# Altium integrated library Xilinx XC4000XL.IntLib: 450 symbols (part 2 of 58)
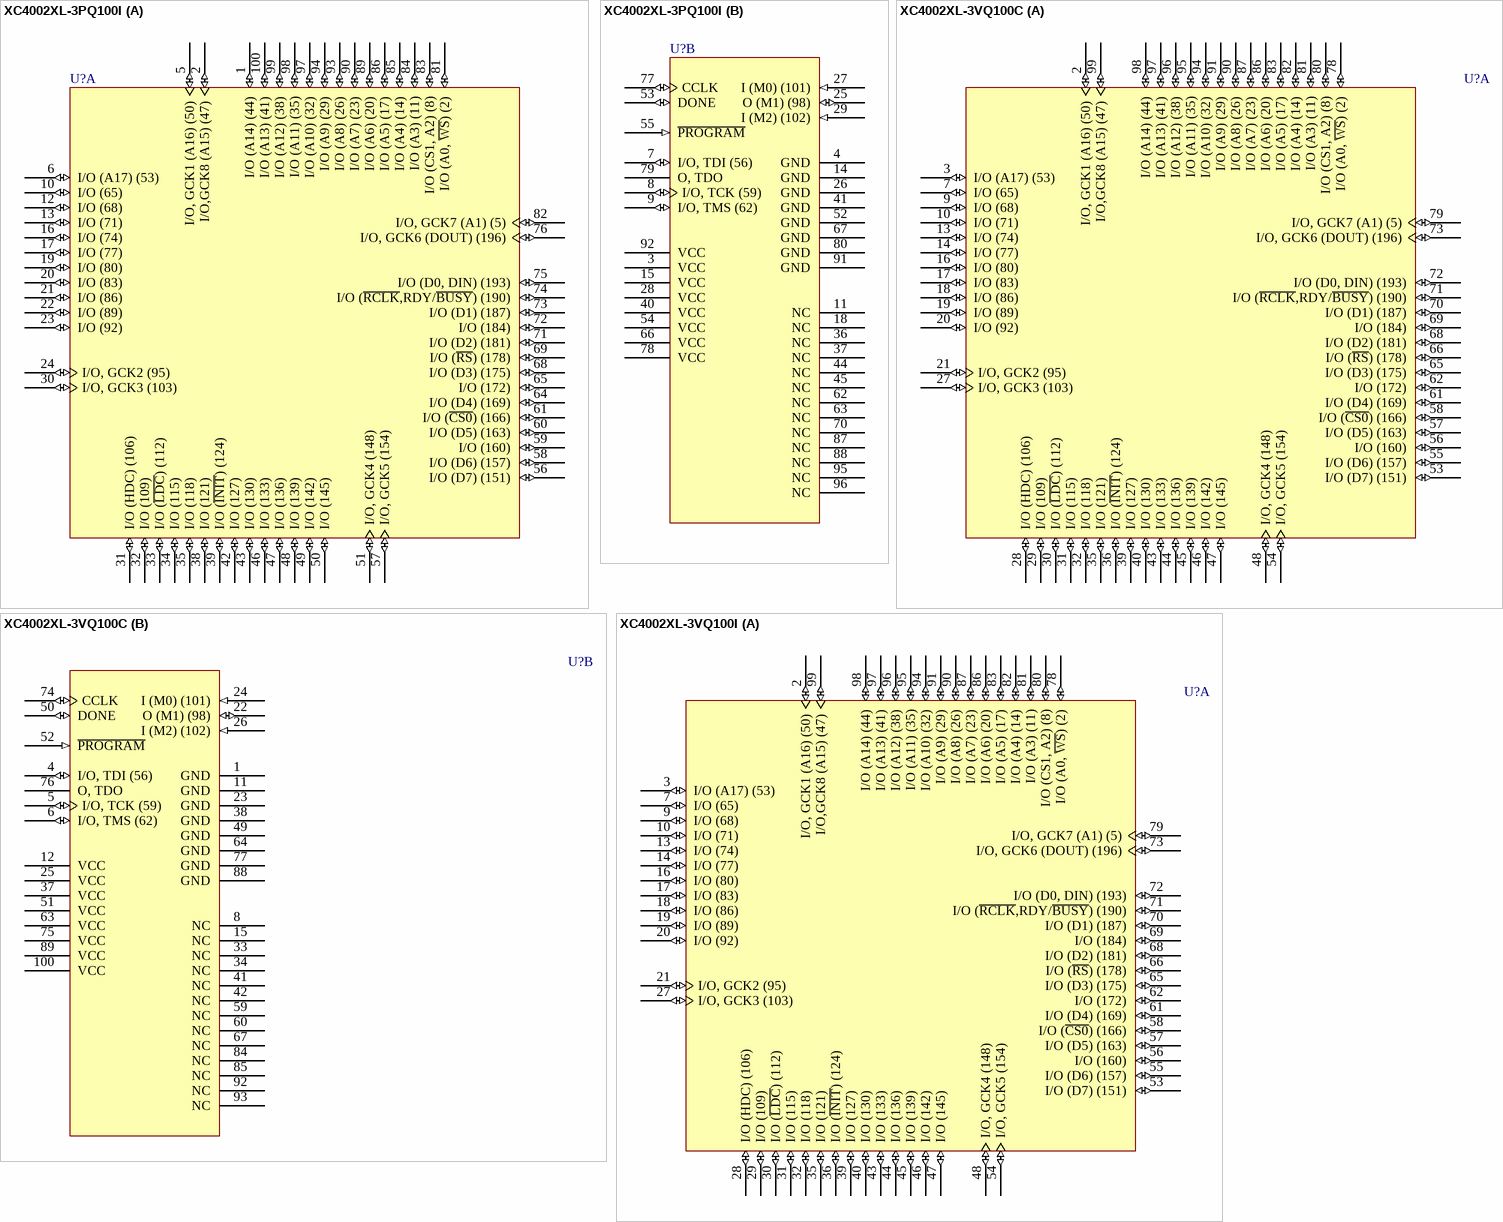
[diagram p400: symbols XC4002XL-3PQ100I to XC4002XL-3VQ100I]

## XC4002XL-3PQ100I
designator U?
XC4000XL FPGA, 64 I/Os, 100-Pin PQFP, Speed Grade 3, Industrial Grade; Published: 28-Feb-2003; LatestRevisionDate: 13-Apr-2006; LatestRevisionNote: IPC-7351 Footprint Added.; DatasheetVersion: ver1.6, May-1999; PackageVersion: ver1.2, Oct-2002; PackageReference: PQ100; Publisher: Altium Limited; PackageDescription: 100-Pin Plastic Quad Flat Pack (PQ100); Code_IPC: QFP65P1720X2320-100; ComponentLink1Description: XC4000XL Datasheet; ComponentLink1URL: http://www.xilinx.com/support/documentation/data_sheets/4000.pdf; ComponentLink2Description: Discontinuation Notice; ComponentLink2URL: http://www.xilinx.com/support/documentation/customer_notices/pdn00001.pdf; ComponentLink3Description: PQ100 Package Drawing; ComponentLink3URL: http://www.xilinx.com/support/documentation/package_specs/pq100.pdf; ComponentLink4Description: XC4000 Documents; ComponentLink4URL: http://www.xilinx.com/support/documentation/xc4000.htm; ComponentLink5Description: Xilinx.com Home; ComponentLink5URL: http://www.xilinx.com
footprint PQ100_N (QFP, 100-Leads, Body 20x14mm, Pitch 0.65mm, IPC Medium Density)
footprint PQ100_L (QFP, 100-Leads, Body 20x14mm, Pitch 0.65mm, IPC High Density)
footprint PQ100_M (QFP, 100-Leads, Body 20x14mm, Pitch 0.65mm, IPC Low Density)
part A pins: 1 I/O (A14) (44) (io), 2 I/O,GCK8 (A15) (47) (io), 5 I/O, GCK1 (A16) (50) (io), 6 I/O (A17) (53) (io), 10 I/O (65) (io), 12 I/O (68) (io), 13 I/O (71) (io), 16 I/O (74) (io), 17 I/O (77) (io), 19 I/O (80) (io), 20 I/O (83) (io), 21 I/O (86) (io), 22 I/O (89) (io), 23 I/O (92) (io), 24 I/O, GCK2 (95) (io), 30 I/O, GCK3 (103) (io), 31 I/O (HDC) (106) (io), 32 I/O (109) (io), 33 I/O (~{LDC}) (112) (io), 34 I/O (115) (io), 35 I/O (118) (io), 38 I/O (121) (io), 39 I/O (~{INIT}) (124) (io), 42 I/O (127) (io), 43 I/O (130) (io), 46 I/O (133) (io), 47 I/O (136) (io), 48 I/O (139) (io), 49 I/O (142) (io), 50 I/O (145) (io), 51 I/O, GCK4 (148) (io), 56 I/O (D7) (151) (io), 57 I/O, GCK5 (154) (io), 58 I/O (D6) (157) (io), 59 I/O (160) (io), 60 I/O (D5) (163) (io), 61 I/O (~{CS0}) (166) (io), 64 I/O (D4) (169) (io), 65 I/O (172) (io), 68 I/O (D3) (175) (io), 69 I/O (~{RS}) (178) (io), 71 I/O (D2) (181) (io), 72 I/O (184) (io), 73 I/O (D1) (187) (io), 74 I/O (~{RCLK},RDY/~{BUSY}) (190) (io), 75 I/O (D0, DIN) (193) (io), 76 I/O, GCK6 (DOUT) (196) (io), 81 I/O (A0, ~{WS}) (2) (io), 82 I/O, GCK7 (A1) (5) (io), 83 I/O (CS1, A2) (8) (io), 84 I/O (A3) (11) (io), 85 I/O (A4) (14) (io), 86 I/O (A5) (17) (io), 89 I/O (A6) (20) (io), 90 I/O (A7) (23) (io), 93 I/O (A8) (26) (io), 94 I/O (A9) (29) (io), 97 I/O (A10) (32) (io), 98 I/O (A11) (35) (io), 99 I/O (A12) (38) (io), 100 I/O (A13) (41) (io)
part B pins: 3 VCC (power), 4 GND (power), 7 I/O, TDI (56) (io), 8 I/O, TCK (59) (io), 9 I/O, TMS (62) (io), 11 NC, 14 GND (power), 15 VCC (power), 18 NC, 25 O (M1) (98) (io), 26 GND (power), 27 I (M0) (101) (in), 28 VCC (power), 29 I (M2) (102) (in), 36 NC, 37 NC, 40 VCC (power), 41 GND (power), 44 NC, 45 NC, 52 GND (power), 53 DONE (io), 54 VCC (power), 55 ~{PROGRAM} (in), 62 NC, 63 NC, 66 VCC (power), 67 GND (power), 70 NC, 77 CCLK (io), 78 VCC (power), 79 O, TDO (hiz), 80 GND (power), 87 NC, 88 NC, 91 GND (power), 92 VCC (power), 95 NC, 96 NC

## XC4002XL-3VQ100C
designator U?
XC4000XL FPGA, 64 I/Os, 100-Pin VQFP, Speed Grade 3, Commercial Grade; Published: 28-Feb-2003; LatestRevisionDate: 13-Apr-2006; LatestRevisionNote: IPC-7351 Footprint Added.; DatasheetVersion: ver1.6, May-1999; PackageVersion: ver1.2.1, Feb-2007; PackageReference: VQ100; Publisher: Altium Limited; PackageDescription: 100-Pin Very Thin Quad Flat Pack (VQ100); Code_JEDEC: MS-026-AED; ComponentLink1Description: XC4000XL Datasheet; ComponentLink1URL: http://www.xilinx.com/support/documentation/data_sheets/4000.pdf; ComponentLink2Description: Discontinuation Notice; ComponentLink2URL: http://www.xilinx.com/support/documentation/customer_notices/pdn00001.pdf; ComponentLink3Description: VQ100 Package Drawing; ComponentLink3URL: http://www.xilinx.com/support/documentation/package_specs/vq100.pdf; ComponentLink4Description: XC4000 Documents; ComponentLink4URL: http://www.xilinx.com/support/documentation/xc4000.htm; ComponentLink5Description: Xilinx.com Home; ComponentLink5URL: http://www.xilinx.com
footprint VQ100_N (Thin QFP, 100-Leads, Body 14x14mm, Pitch 0.5mm, IPC Medium Density)
footprint VQ100_L (Thin QFP, 100-Leads, Body 14x14mm, Pitch 0.5mm, IPC High Density)
footprint VQ100_M (Thin QFP, 100-Leads, Body 14x14mm, Pitch 0.5mm, IPC Low Density)
part A pins: 2 I/O, GCK1 (A16) (50) (io), 3 I/O (A17) (53) (io), 7 I/O (65) (io), 9 I/O (68) (io), 10 I/O (71) (io), 13 I/O (74) (io), 14 I/O (77) (io), 16 I/O (80) (io), 17 I/O (83) (io), 18 I/O (86) (io), 19 I/O (89) (io), 20 I/O (92) (io), 21 I/O, GCK2 (95) (io), 27 I/O, GCK3 (103) (io), 28 I/O (HDC) (106) (io), 29 I/O (109) (io), 30 I/O (~{LDC}) (112) (io), 31 I/O (115) (io), 32 I/O (118) (io), 35 I/O (121) (io), 36 I/O (~{INIT}) (124) (io), 39 I/O (127) (io), 40 I/O (130) (io), 43 I/O (133) (io), 44 I/O (136) (io), 45 I/O (139) (io), 46 I/O (142) (io), 47 I/O (145) (io), 48 I/O, GCK4 (148) (io), 53 I/O (D7) (151) (io), 54 I/O, GCK5 (154) (io), 55 I/O (D6) (157) (io), 56 I/O (160) (io), 57 I/O (D5) (163) (io), 58 I/O (~{CS0}) (166) (io), 61 I/O (D4) (169) (io), 62 I/O (172) (io), 65 I/O (D3) (175) (io), 66 I/O (~{RS}) (178) (io), 68 I/O (D2) (181) (io), 69 I/O (184) (io), 70 I/O (D1) (187) (io), 71 I/O (~{RCLK},RDY/~{BUSY}) (190) (io), 72 I/O (D0, DIN) (193) (io), 73 I/O, GCK6 (DOUT) (196) (io), 78 I/O (A0, ~{WS}) (2) (io), 79 I/O, GCK7 (A1) (5) (io), 80 I/O (CS1, A2) (8) (io), 81 I/O (A3) (11) (io), 82 I/O (A4) (14) (io), 83 I/O (A5) (17) (io), 86 I/O (A6) (20) (io), 87 I/O (A7) (23) (io), 90 I/O (A8) (26) (io), 91 I/O (A9) (29) (io), 94 I/O (A10) (32) (io), 95 I/O (A11) (35) (io), 96 I/O (A12) (38) (io), 97 I/O (A13) (41) (io), 98 I/O (A14) (44) (io), 99 I/O,GCK8 (A15) (47) (io)
part B pins: 1 GND (power), 4 I/O, TDI (56) (io), 5 I/O, TCK (59) (io), 6 I/O, TMS (62) (io), 8 NC, 11 GND (power), 12 VCC (power), 15 NC, 22 O (M1) (98) (io), 23 GND (power), 24 I (M0) (101) (in), 25 VCC (power), 26 I (M2) (102) (in), 33 NC, 34 NC, 37 VCC (power), 38 GND (power), 41 NC, 42 NC, 49 GND (power), 50 DONE (io), 51 VCC (power), 52 ~{PROGRAM} (in), 59 NC, 60 NC, 63 VCC (power), 64 GND (power), 67 NC, 74 CCLK (io), 75 VCC (power), 76 O, TDO (hiz), 77 GND (power), 84 NC, 85 NC, 88 GND (power), 89 VCC (power), 92 NC, 93 NC, 100 VCC (power)

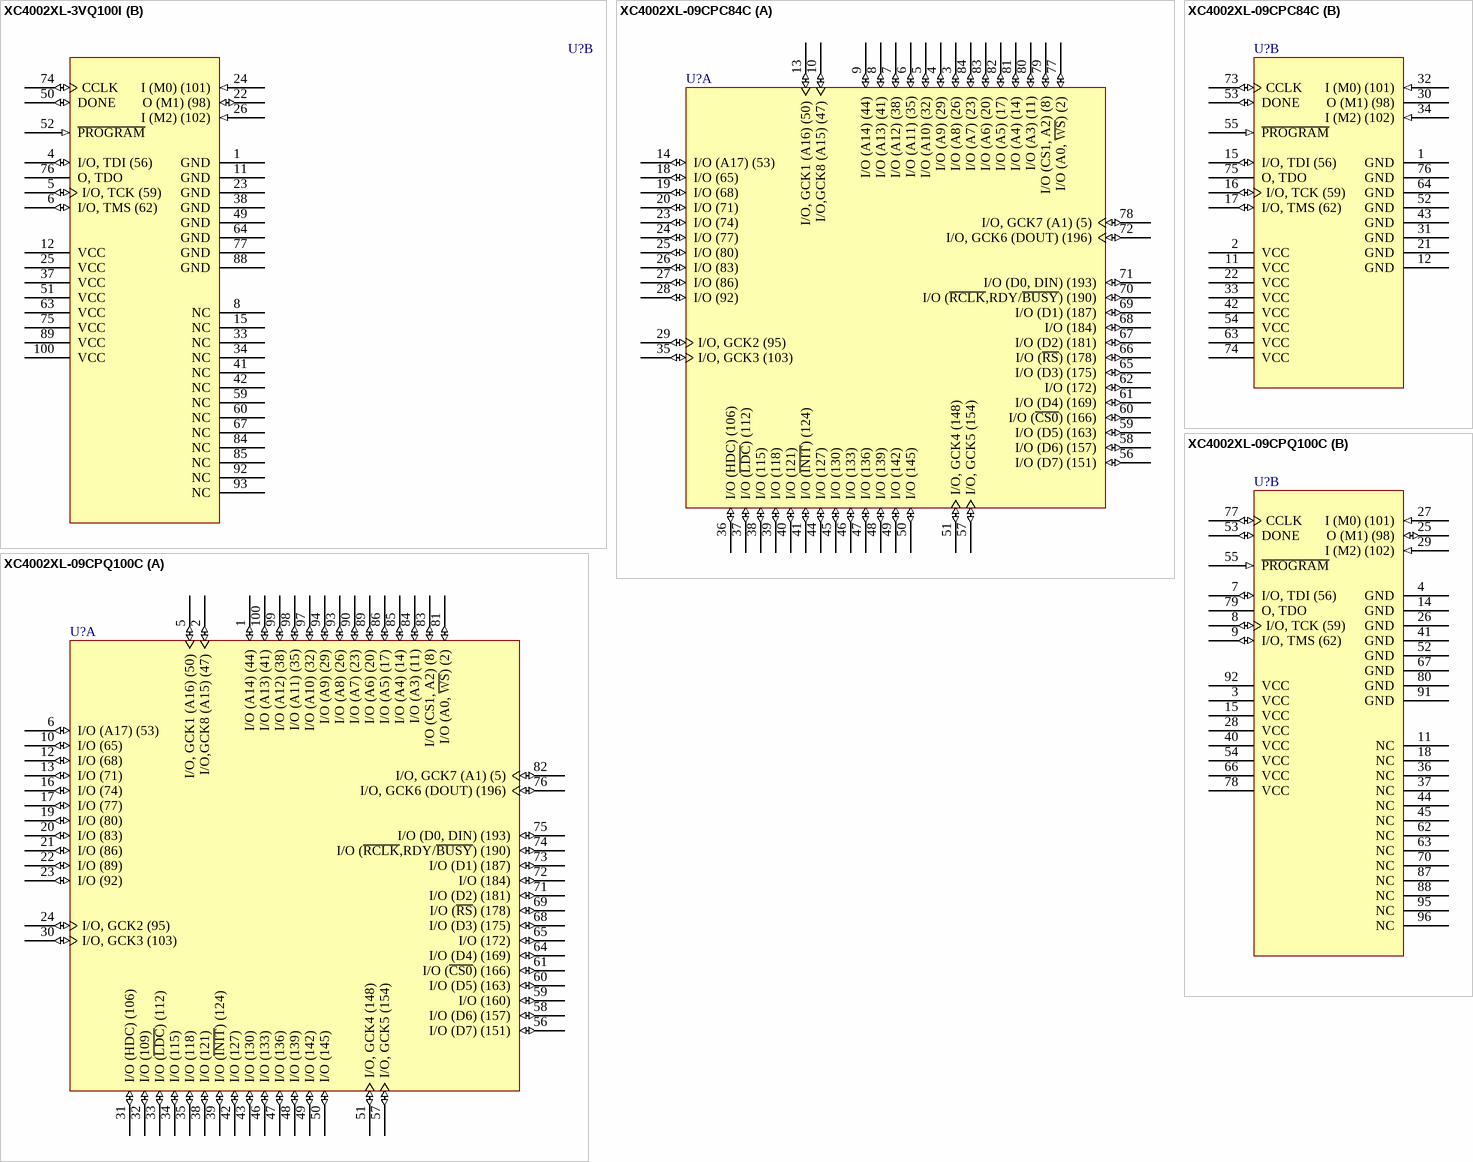
[diagram p6: symbols XC4002XL-3VQ100I to XC4002XL-09CPQ100C]

## XC4002XL-3VQ100I
designator U?
XC4000XL FPGA, 64 I/Os, 100-Pin VQFP, Speed Grade 3, Industrial Grade; Published: 28-Feb-2003; LatestRevisionDate: 13-Apr-2006; LatestRevisionNote: IPC-7351 Footprint Added.; DatasheetVersion: ver1.6, May-1999; PackageVersion: ver1.2.1, Feb-2007; PackageReference: VQ100; Publisher: Altium Limited; PackageDescription: 100-Pin Very Thin Quad Flat Pack (VQ100); Code_JEDEC: MS-026-AED; ComponentLink1Description: XC4000XL Datasheet; ComponentLink1URL: http://www.xilinx.com/support/documentation/data_sheets/4000.pdf; ComponentLink2Description: Discontinuation Notice; ComponentLink2URL: http://www.xilinx.com/support/documentation/customer_notices/pdn00001.pdf; ComponentLink3Description: VQ100 Package Drawing; ComponentLink3URL: http://www.xilinx.com/support/documentation/package_specs/vq100.pdf; ComponentLink4Description: XC4000 Documents; ComponentLink4URL: http://www.xilinx.com/support/documentation/xc4000.htm; ComponentLink5Description: Xilinx.com Home; ComponentLink5URL: http://www.xilinx.com
footprint VQ100_N (Thin QFP, 100-Leads, Body 14x14mm, Pitch 0.5mm, IPC Medium Density)
footprint VQ100_L (Thin QFP, 100-Leads, Body 14x14mm, Pitch 0.5mm, IPC High Density)
footprint VQ100_M (Thin QFP, 100-Leads, Body 14x14mm, Pitch 0.5mm, IPC Low Density)
part A pins: 2 I/O, GCK1 (A16) (50) (io), 3 I/O (A17) (53) (io), 7 I/O (65) (io), 9 I/O (68) (io), 10 I/O (71) (io), 13 I/O (74) (io), 14 I/O (77) (io), 16 I/O (80) (io), 17 I/O (83) (io), 18 I/O (86) (io), 19 I/O (89) (io), 20 I/O (92) (io), 21 I/O, GCK2 (95) (io), 27 I/O, GCK3 (103) (io), 28 I/O (HDC) (106) (io), 29 I/O (109) (io), 30 I/O (~{LDC}) (112) (io), 31 I/O (115) (io), 32 I/O (118) (io), 35 I/O (121) (io), 36 I/O (~{INIT}) (124) (io), 39 I/O (127) (io), 40 I/O (130) (io), 43 I/O (133) (io), 44 I/O (136) (io), 45 I/O (139) (io), 46 I/O (142) (io), 47 I/O (145) (io), 48 I/O, GCK4 (148) (io), 53 I/O (D7) (151) (io), 54 I/O, GCK5 (154) (io), 55 I/O (D6) (157) (io), 56 I/O (160) (io), 57 I/O (D5) (163) (io), 58 I/O (~{CS0}) (166) (io), 61 I/O (D4) (169) (io), 62 I/O (172) (io), 65 I/O (D3) (175) (io), 66 I/O (~{RS}) (178) (io), 68 I/O (D2) (181) (io), 69 I/O (184) (io), 70 I/O (D1) (187) (io), 71 I/O (~{RCLK},RDY/~{BUSY}) (190) (io), 72 I/O (D0, DIN) (193) (io), 73 I/O, GCK6 (DOUT) (196) (io), 78 I/O (A0, ~{WS}) (2) (io), 79 I/O, GCK7 (A1) (5) (io), 80 I/O (CS1, A2) (8) (io), 81 I/O (A3) (11) (io), 82 I/O (A4) (14) (io), 83 I/O (A5) (17) (io), 86 I/O (A6) (20) (io), 87 I/O (A7) (23) (io), 90 I/O (A8) (26) (io), 91 I/O (A9) (29) (io), 94 I/O (A10) (32) (io), 95 I/O (A11) (35) (io), 96 I/O (A12) (38) (io), 97 I/O (A13) (41) (io), 98 I/O (A14) (44) (io), 99 I/O,GCK8 (A15) (47) (io)
part B pins: 1 GND (power), 4 I/O, TDI (56) (io), 5 I/O, TCK (59) (io), 6 I/O, TMS (62) (io), 8 NC, 11 GND (power), 12 VCC (power), 15 NC, 22 O (M1) (98) (io), 23 GND (power), 24 I (M0) (101) (in), 25 VCC (power), 26 I (M2) (102) (in), 33 NC, 34 NC, 37 VCC (power), 38 GND (power), 41 NC, 42 NC, 49 GND (power), 50 DONE (io), 51 VCC (power), 52 ~{PROGRAM} (in), 59 NC, 60 NC, 63 VCC (power), 64 GND (power), 67 NC, 74 CCLK (io), 75 VCC (power), 76 O, TDO (hiz), 77 GND (power), 84 NC, 85 NC, 88 GND (power), 89 VCC (power), 92 NC, 93 NC, 100 VCC (power)

## XC4002XL-09CPC84C
designator U?
XC4000XL FPGA, 61 I/Os, 84-Pin PLCC, Speed Grade 9, Commercial Grade; Published: 28-Feb-2003; LatestRevisionDate: 13-Apr-2006; LatestRevisionNote: IPC-7351 Footprint Added.; DatasheetVersion: ver1.6, May-1999; PackageVersion: ver1.2, Jun-2004; PackageReference: PC84; Publisher: Altium Limited; PackageDescription: 84-Pin Plastic Leaded Chip Carrier (PC84); Code_JEDEC: MS-047; Code_IPC: PLCC-84; ComponentLink1Description: XC4000XL Datasheet; ComponentLink1URL: http://www.xilinx.com/support/documentation/data_sheets/4000.pdf; ComponentLink2Description: Discontinuation Notice; ComponentLink2URL: http://www.xilinx.com/support/documentation/customer_notices/pdn00001.pdf; ComponentLink3Description: PC84 Package Drawing; ComponentLink3URL: http://www.xilinx.com/support/documentation/package_specs/pc84.pdf; ComponentLink4Description: XC4000 Documents; ComponentLink4URL: http://www.xilinx.com/support/documentation/xc4000.htm; ComponentLink5Description: Xilinx.com Home; ComponentLink5URL: http://www.xilinx.com
footprint PC84_N (Leaded Chip Carrier, 84-Leads, Body 29.3x29.3mm, Pitch 1.27mm, IPC Medium Density)
footprint PC84_L (Leaded Chip Carrier, 84-Leads, Body 29.3x29.3mm, Pitch 1.27mm, IPC High Density)
footprint PC84_M (Leaded Chip Carrier, 84-Leads, Body 29.3x29.3mm, Pitch 1.27mm, IPC Low Density)
part A pins: 3 I/O (A8) (26) (io), 4 I/O (A9) (29) (io), 5 I/O (A10) (32) (io), 6 I/O (A11) (35) (io), 7 I/O (A12) (38) (io), 8 I/O (A13) (41) (io), 9 I/O (A14) (44) (io), 10 I/O,GCK8 (A15) (47) (io), 13 I/O, GCK1 (A16) (50) (io), 14 I/O (A17) (53) (io), 18 I/O (65) (io), 19 I/O (68) (io), 20 I/O (71) (io), 23 I/O (74) (io), 24 I/O (77) (io), 25 I/O (80) (io), 26 I/O (83) (io), 27 I/O (86) (io), 28 I/O (92) (io), 29 I/O, GCK2 (95) (io), 35 I/O, GCK3 (103) (io), 36 I/O (HDC) (106) (io), 37 I/O (~{LDC}) (112) (io), 38 I/O (115) (io), 39 I/O (118) (io), 40 I/O (121) (io), 41 I/O (~{INIT}) (124) (io), 44 I/O (127) (io), 45 I/O (130) (io), 46 I/O (133) (io), 47 I/O (136) (io), 48 I/O (139) (io), 49 I/O (142) (io), 50 I/O (145) (io), 51 I/O, GCK4 (148) (io), 56 I/O (D7) (151) (io), 57 I/O, GCK5 (154) (io), 58 I/O (D6) (157) (io), 59 I/O (D5) (163) (io), 60 I/O (~{CS0}) (166) (io), 61 I/O (D4) (169) (io), 62 I/O (172) (io), 65 I/O (D3) (175) (io), 66 I/O (~{RS}) (178) (io), 67 I/O (D2) (181) (io), 68 I/O (184) (io), 69 I/O (D1) (187) (io), 70 I/O (~{RCLK},RDY/~{BUSY}) (190) (io), 71 I/O (D0, DIN) (193) (io), 72 I/O, GCK6 (DOUT) (196) (io), 77 I/O (A0, ~{WS}) (2) (io), 78 I/O, GCK7 (A1) (5) (io), 79 I/O (CS1, A2) (8) (io), 80 I/O (A3) (11) (io), 81 I/O (A4) (14) (io), 82 I/O (A5) (17) (io), 83 I/O (A6) (20) (io), 84 I/O (A7) (23) (io)
part B pins: 1 GND (power), 2 VCC (power), 11 VCC (power), 12 GND (power), 15 I/O, TDI (56) (io), 16 I/O, TCK (59) (io), 17 I/O, TMS (62) (io), 21 GND (power), 22 VCC (power), 30 O (M1) (98), 31 GND (power), 32 I (M0) (101) (in), 33 VCC (power), 34 I (M2) (102) (in), 42 VCC (power), 43 GND (power), 52 GND (power), 53 DONE (io), 54 VCC (power), 55 ~{PROGRAM} (in), 63 VCC (power), 64 GND (power), 73 CCLK (io), 74 VCC (power), 75 O, TDO (hiz), 76 GND (power)

## XC4002XL-09CPQ100C
designator U?
XC4000XL FPGA, 64 I/Os, 100-Pin PQFP, Speed Grade 9, Commercial Grade; Published: 28-Feb-2003; LatestRevisionDate: 13-Apr-2006; LatestRevisionNote: IPC-7351 Footprint Added.; DatasheetVersion: ver1.6, May-1999; PackageVersion: ver1.2, Oct-2002; PackageReference: PQ100; Publisher: Altium Limited; PackageDescription: 100-Pin Plastic Quad Flat Pack (PQ100); Code_IPC: QFP65P1720X2320-100; ComponentLink1Description: XC4000XL Datasheet; ComponentLink1URL: http://www.xilinx.com/support/documentation/data_sheets/4000.pdf; ComponentLink2Description: Discontinuation Notice; ComponentLink2URL: http://www.xilinx.com/support/documentation/customer_notices/pdn00001.pdf; ComponentLink3Description: PQ100 Package Drawing; ComponentLink3URL: http://www.xilinx.com/support/documentation/package_specs/pq100.pdf; ComponentLink4Description: XC4000 Documents; ComponentLink4URL: http://www.xilinx.com/support/documentation/xc4000.htm; ComponentLink5Description: Xilinx.com Home; ComponentLink5URL: http://www.xilinx.com
footprint PQ100_N (QFP, 100-Leads, Body 20x14mm, Pitch 0.65mm, IPC Medium Density)
footprint PQ100_L (QFP, 100-Leads, Body 20x14mm, Pitch 0.65mm, IPC High Density)
footprint PQ100_M (QFP, 100-Leads, Body 20x14mm, Pitch 0.65mm, IPC Low Density)
part A pins: 1 I/O (A14) (44) (io), 2 I/O,GCK8 (A15) (47) (io), 5 I/O, GCK1 (A16) (50) (io), 6 I/O (A17) (53) (io), 10 I/O (65) (io), 12 I/O (68) (io), 13 I/O (71) (io), 16 I/O (74) (io), 17 I/O (77) (io), 19 I/O (80) (io), 20 I/O (83) (io), 21 I/O (86) (io), 22 I/O (89) (io), 23 I/O (92) (io), 24 I/O, GCK2 (95) (io), 30 I/O, GCK3 (103) (io), 31 I/O (HDC) (106) (io), 32 I/O (109) (io), 33 I/O (~{LDC}) (112) (io), 34 I/O (115) (io), 35 I/O (118) (io), 38 I/O (121) (io), 39 I/O (~{INIT}) (124) (io), 42 I/O (127) (io), 43 I/O (130) (io), 46 I/O (133) (io), 47 I/O (136) (io), 48 I/O (139) (io), 49 I/O (142) (io), 50 I/O (145) (io), 51 I/O, GCK4 (148) (io), 56 I/O (D7) (151) (io), 57 I/O, GCK5 (154) (io), 58 I/O (D6) (157) (io), 59 I/O (160) (io), 60 I/O (D5) (163) (io), 61 I/O (~{CS0}) (166) (io), 64 I/O (D4) (169) (io), 65 I/O (172) (io), 68 I/O (D3) (175) (io), 69 I/O (~{RS}) (178) (io), 71 I/O (D2) (181) (io), 72 I/O (184) (io), 73 I/O (D1) (187) (io), 74 I/O (~{RCLK},RDY/~{BUSY}) (190) (io), 75 I/O (D0, DIN) (193) (io), 76 I/O, GCK6 (DOUT) (196) (io), 81 I/O (A0, ~{WS}) (2) (io), 82 I/O, GCK7 (A1) (5) (io), 83 I/O (CS1, A2) (8) (io), 84 I/O (A3) (11) (io), 85 I/O (A4) (14) (io), 86 I/O (A5) (17) (io), 89 I/O (A6) (20) (io), 90 I/O (A7) (23) (io), 93 I/O (A8) (26) (io), 94 I/O (A9) (29) (io), 97 I/O (A10) (32) (io), 98 I/O (A11) (35) (io), 99 I/O (A12) (38) (io), 100 I/O (A13) (41) (io)
part B pins: 3 VCC (power), 4 GND (power), 7 I/O, TDI (56) (io), 8 I/O, TCK (59) (io), 9 I/O, TMS (62) (io), 11 NC, 14 GND (power), 15 VCC (power), 18 NC, 25 O (M1) (98) (io), 26 GND (power), 27 I (M0) (101) (in), 28 VCC (power), 29 I (M2) (102) (in), 36 NC, 37 NC, 40 VCC (power), 41 GND (power), 44 NC, 45 NC, 52 GND (power), 53 DONE (io), 54 VCC (power), 55 ~{PROGRAM} (in), 62 NC, 63 NC, 66 VCC (power), 67 GND (power), 70 NC, 77 CCLK (io), 78 VCC (power), 79 O, TDO (hiz), 80 GND (power), 87 NC, 88 NC, 91 GND (power), 92 VCC (power), 95 NC, 96 NC

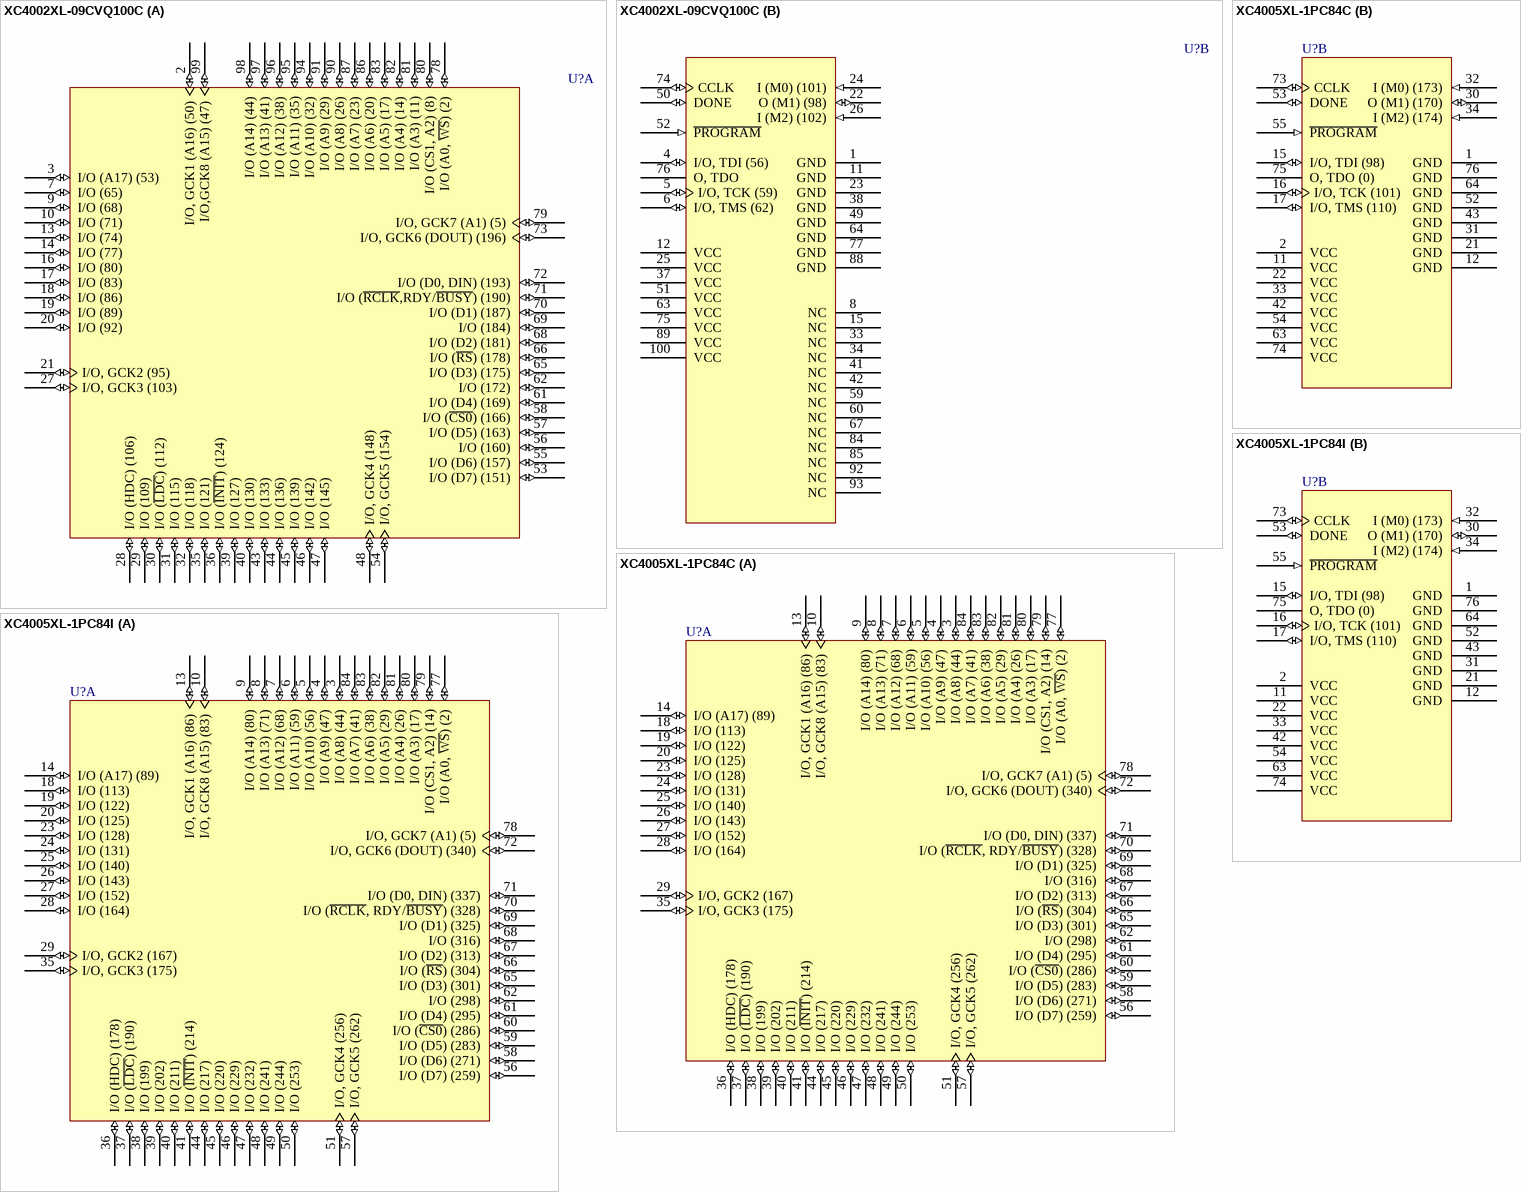
[diagram p7: symbols XC4002XL-09CVQ100C to XC4005XL-1PC84I]

## XC4002XL-09CVQ100C
designator U?
XC4000XL FPGA, 64 I/Os, 100-Pin VQFP, Speed Grade 9, Commercial Grade; Published: 28-Feb-2003; LatestRevisionDate: 13-Apr-2006; LatestRevisionNote: IPC-7351 Footprint Added.; DatasheetVersion: ver1.6, May-1999; PackageVersion: ver1.2.1, Feb-2007; PackageReference: VQ100; Publisher: Altium Limited; PackageDescription: 100-Pin Very Thin Quad Flat Pack (VQ100); Code_JEDEC: MS-026-AED; ComponentLink1Description: XC4000XL Datasheet; ComponentLink1URL: http://www.xilinx.com/support/documentation/data_sheets/4000.pdf; ComponentLink2Description: Discontinuation Notice; ComponentLink2URL: http://www.xilinx.com/support/documentation/customer_notices/pdn00001.pdf; ComponentLink3Description: VQ100 Package Drawing; ComponentLink3URL: http://www.xilinx.com/support/documentation/package_specs/vq100.pdf; ComponentLink4Description: XC4000 Documents; ComponentLink4URL: http://www.xilinx.com/support/documentation/xc4000.htm; ComponentLink5Description: Xilinx.com Home; ComponentLink5URL: http://www.xilinx.com
footprint VQ100_N (Thin QFP, 100-Leads, Body 14x14mm, Pitch 0.5mm, IPC Medium Density)
footprint VQ100_L (Thin QFP, 100-Leads, Body 14x14mm, Pitch 0.5mm, IPC High Density)
footprint VQ100_M (Thin QFP, 100-Leads, Body 14x14mm, Pitch 0.5mm, IPC Low Density)
part A pins: 2 I/O, GCK1 (A16) (50) (io), 3 I/O (A17) (53) (io), 7 I/O (65) (io), 9 I/O (68) (io), 10 I/O (71) (io), 13 I/O (74) (io), 14 I/O (77) (io), 16 I/O (80) (io), 17 I/O (83) (io), 18 I/O (86) (io), 19 I/O (89) (io), 20 I/O (92) (io), 21 I/O, GCK2 (95) (io), 27 I/O, GCK3 (103) (io), 28 I/O (HDC) (106) (io), 29 I/O (109) (io), 30 I/O (~{LDC}) (112) (io), 31 I/O (115) (io), 32 I/O (118) (io), 35 I/O (121) (io), 36 I/O (~{INIT}) (124) (io), 39 I/O (127) (io), 40 I/O (130) (io), 43 I/O (133) (io), 44 I/O (136) (io), 45 I/O (139) (io), 46 I/O (142) (io), 47 I/O (145) (io), 48 I/O, GCK4 (148) (io), 53 I/O (D7) (151) (io), 54 I/O, GCK5 (154) (io), 55 I/O (D6) (157) (io), 56 I/O (160) (io), 57 I/O (D5) (163) (io), 58 I/O (~{CS0}) (166) (io), 61 I/O (D4) (169) (io), 62 I/O (172) (io), 65 I/O (D3) (175) (io), 66 I/O (~{RS}) (178) (io), 68 I/O (D2) (181) (io), 69 I/O (184) (io), 70 I/O (D1) (187) (io), 71 I/O (~{RCLK},RDY/~{BUSY}) (190) (io), 72 I/O (D0, DIN) (193) (io), 73 I/O, GCK6 (DOUT) (196) (io), 78 I/O (A0, ~{WS}) (2) (io), 79 I/O, GCK7 (A1) (5) (io), 80 I/O (CS1, A2) (8) (io), 81 I/O (A3) (11) (io), 82 I/O (A4) (14) (io), 83 I/O (A5) (17) (io), 86 I/O (A6) (20) (io), 87 I/O (A7) (23) (io), 90 I/O (A8) (26) (io), 91 I/O (A9) (29) (io), 94 I/O (A10) (32) (io), 95 I/O (A11) (35) (io), 96 I/O (A12) (38) (io), 97 I/O (A13) (41) (io), 98 I/O (A14) (44) (io), 99 I/O,GCK8 (A15) (47) (io)
part B pins: 1 GND (power), 4 I/O, TDI (56) (io), 5 I/O, TCK (59) (io), 6 I/O, TMS (62) (io), 8 NC, 11 GND (power), 12 VCC (power), 15 NC, 22 O (M1) (98) (io), 23 GND (power), 24 I (M0) (101) (in), 25 VCC (power), 26 I (M2) (102) (in), 33 NC, 34 NC, 37 VCC (power), 38 GND (power), 41 NC, 42 NC, 49 GND (power), 50 DONE (io), 51 VCC (power), 52 ~{PROGRAM} (in), 59 NC, 60 NC, 63 VCC (power), 64 GND (power), 67 NC, 74 CCLK (io), 75 VCC (power), 76 O, TDO (hiz), 77 GND (power), 84 NC, 85 NC, 88 GND (power), 89 VCC (power), 92 NC, 93 NC, 100 VCC (power)

## XC4005XL-1PC84C
designator U?
XC4000XL FPGA, 61 I/Os, 84-Pin PLCC, Speed Grade 1, Commercial Grade; Published: 28-Feb-2003; LatestRevisionDate: 13-Apr-2006; LatestRevisionNote: IPC-7351 Footprint Added.; DatasheetVersion: ver1.6, May-1999; PackageVersion: ver1.2, Jun-2004; PackageReference: PC84; Publisher: Altium Limited; PackageDescription: 84-Pin Plastic Leaded Chip Carrier (PC84); Supplier 1: Digi-Key; Supplier Part Number 1: XC4005XL-1PC84C-ND; Code_JEDEC: MS-047; Code_IPC: PLCC-84; ComponentLink1Description: XC4000XL Datasheet; ComponentLink1URL: http://www.xilinx.com/support/documentation/data_sheets/4000.pdf; ComponentLink2Description: Discontinuation Notice; ComponentLink2URL: http://www.xilinx.com/support/documentation/customer_notices/pdn2004-21.pdf; ComponentLink3Description: PC84 Package Drawing; ComponentLink3URL: http://www.xilinx.com/support/documentation/package_specs/pc84.pdf; ComponentLink4Description: XC4000 Documents; ComponentLink4URL: http://www.xilinx.com/support/documentation/xc4000.htm; ComponentLink5Description: Xilinx.com Home; ComponentLink5URL: http://www.xilinx.com
footprint PC84_N (Leaded Chip Carrier, 84-Leads, Body 29.3x29.3mm, Pitch 1.27mm, IPC Medium Density)
footprint PC84_L (Leaded Chip Carrier, 84-Leads, Body 29.3x29.3mm, Pitch 1.27mm, IPC High Density)
footprint PC84_M (Leaded Chip Carrier, 84-Leads, Body 29.3x29.3mm, Pitch 1.27mm, IPC Low Density)
part A pins: 3 I/O (A8) (44) (io), 4 I/O (A9) (47) (io), 5 I/O (A10) (56) (io), 6 I/O (A11) (59) (io), 7 I/O (A12) (68) (io), 8 I/O (A13) (71) (io), 9 I/O (A14) (80) (io), 10 I/O, GCK8 (A15) (83) (io), 13 I/O, GCK1 (A16) (86) (io), 14 I/O (A17) (89) (io), 18 I/O (113) (io), 19 I/O (122) (io), 20 I/O (125) (io), 23 I/O (128) (io), 24 I/O (131) (io), 25 I/O (140) (io), 26 I/O (143) (io), 27 I/O (152) (io), 28 I/O (164) (io), 29 I/O, GCK2 (167) (io), 35 I/O, GCK3 (175) (io), 36 I/O (HDC) (178) (io), 37 I/O (~{LDC}) (190) (io), 38 I/O (199) (io), 39 I/O (202) (io), 40 I/O (211) (io), 41 I/O (~{INIT}) (214) (io), 44 I/O (217) (io), 45 I/O (220) (io), 46 I/O (229) (io), 47 I/O (232) (io), 48 I/O (241) (io), 49 I/O (244) (io), 50 I/O (253) (io), 51 I/O, GCK4 (256) (io), 56 I/O (D7) (259) (io), 57 I/O, GCK5 (262) (io), 58 I/O (D6) (271) (io), 59 I/O (D5) (283) (io), 60 I/O (~{CS0}) (286) (io), 61 I/O (D4) (295) (io), 62 I/O (298) (io), 65 I/O (D3) (301) (io), 66 I/O (~{RS}) (304) (io), 67 I/O (D2) (313) (io), 68 I/O (316) (io), 69 I/O (D1) (325) (io), 70 I/O (~{RCLK}, RDY/~{BUSY}) (328) (io), 71 I/O (D0, DIN) (337) (io), 72 I/O, GCK6 (DOUT) (340) (io), 77 I/O (A0, ~{WS}) (2) (io), 78 I/O, GCK7 (A1) (5) (io), 79 I/O (CS1, A2) (14) (io), 80 I/O (A3) (17) (io), 81 I/O (A4) (26) (io), 82 I/O (A5) (29) (io), 83 I/O (A6) (38) (io), 84 I/O (A7) (41) (io)
part B pins: 1 GND (power), 2 VCC (power), 11 VCC (power), 12 GND (power), 15 I/O, TDI (98) (io), 16 I/O, TCK (101) (io), 17 I/O, TMS (110) (io), 21 GND (power), 22 VCC (power), 30 O (M1) (170) (io), 31 GND (power), 32 I (M0) (173) (in), 33 VCC (power), 34 I (M2) (174) (in), 42 VCC (power), 43 GND (power), 52 GND (power), 53 DONE (io), 54 VCC (power), 55 ~{PROGRAM} (in), 63 VCC (power), 64 GND (power), 73 CCLK (io), 74 VCC (power), 75 O, TDO (0) (hiz), 76 GND (power)

## XC4005XL-1PC84I
designator U?
XC4000XL FPGA, 61 I/Os, 84-Pin PLCC, Speed Grade 1, Industrial Grade; Published: 28-Feb-2003; LatestRevisionDate: 13-Apr-2006; LatestRevisionNote: IPC-7351 Footprint Added.; DatasheetVersion: ver1.6, May-1999; PackageVersion: ver1.2, Jun-2004; PackageReference: PC84; Publisher: Altium Limited; PackageDescription: 84-Pin Plastic Leaded Chip Carrier (PC84); Supplier 1: Digi-Key; Supplier Part Number 1: XC4005XL-1PC84I-ND; Code_JEDEC: MS-047; Code_IPC: PLCC-84; ComponentLink1Description: XC4000XL Datasheet; ComponentLink1URL: http://www.xilinx.com/support/documentation/data_sheets/4000.pdf; ComponentLink2Description: Discontinuation Notice; ComponentLink2URL: http://www.xilinx.com/support/documentation/customer_notices/pdn2004-21.pdf; ComponentLink3Description: PC84 Package Drawing; ComponentLink3URL: http://www.xilinx.com/support/documentation/package_specs/pc84.pdf; ComponentLink4Description: XC4000 Documents; ComponentLink4URL: http://www.xilinx.com/support/documentation/xc4000.htm; ComponentLink5Description: Xilinx.com Home; ComponentLink5URL: http://www.xilinx.com
footprint PC84_N (Leaded Chip Carrier, 84-Leads, Body 29.3x29.3mm, Pitch 1.27mm, IPC Medium Density)
footprint PC84_L (Leaded Chip Carrier, 84-Leads, Body 29.3x29.3mm, Pitch 1.27mm, IPC High Density)
footprint PC84_M (Leaded Chip Carrier, 84-Leads, Body 29.3x29.3mm, Pitch 1.27mm, IPC Low Density)
part A pins: 3 I/O (A8) (44) (io), 4 I/O (A9) (47) (io), 5 I/O (A10) (56) (io), 6 I/O (A11) (59) (io), 7 I/O (A12) (68) (io), 8 I/O (A13) (71) (io), 9 I/O (A14) (80) (io), 10 I/O, GCK8 (A15) (83) (io), 13 I/O, GCK1 (A16) (86) (io), 14 I/O (A17) (89) (io), 18 I/O (113) (io), 19 I/O (122) (io), 20 I/O (125) (io), 23 I/O (128) (io), 24 I/O (131) (io), 25 I/O (140) (io), 26 I/O (143) (io), 27 I/O (152) (io), 28 I/O (164) (io), 29 I/O, GCK2 (167) (io), 35 I/O, GCK3 (175) (io), 36 I/O (HDC) (178) (io), 37 I/O (~{LDC}) (190) (io), 38 I/O (199) (io), 39 I/O (202) (io), 40 I/O (211) (io), 41 I/O (~{INIT}) (214) (io), 44 I/O (217) (io), 45 I/O (220) (io), 46 I/O (229) (io), 47 I/O (232) (io), 48 I/O (241) (io), 49 I/O (244) (io), 50 I/O (253) (io), 51 I/O, GCK4 (256) (io), 56 I/O (D7) (259) (io), 57 I/O, GCK5 (262) (io), 58 I/O (D6) (271) (io), 59 I/O (D5) (283) (io), 60 I/O (~{CS0}) (286) (io), 61 I/O (D4) (295) (io), 62 I/O (298) (io), 65 I/O (D3) (301) (io), 66 I/O (~{RS}) (304) (io), 67 I/O (D2) (313) (io), 68 I/O (316) (io), 69 I/O (D1) (325) (io), 70 I/O (~{RCLK}, RDY/~{BUSY}) (328) (io), 71 I/O (D0, DIN) (337) (io), 72 I/O, GCK6 (DOUT) (340) (io), 77 I/O (A0, ~{WS}) (2) (io), 78 I/O, GCK7 (A1) (5) (io), 79 I/O (CS1, A2) (14) (io), 80 I/O (A3) (17) (io), 81 I/O (A4) (26) (io), 82 I/O (A5) (29) (io), 83 I/O (A6) (38) (io), 84 I/O (A7) (41) (io)
part B pins: 1 GND (power), 2 VCC (power), 11 VCC (power), 12 GND (power), 15 I/O, TDI (98) (io), 16 I/O, TCK (101) (io), 17 I/O, TMS (110) (io), 21 GND (power), 22 VCC (power), 30 O (M1) (170) (io), 31 GND (power), 32 I (M0) (173) (in), 33 VCC (power), 34 I (M2) (174) (in), 42 VCC (power), 43 GND (power), 52 GND (power), 53 DONE (io), 54 VCC (power), 55 ~{PROGRAM} (in), 63 VCC (power), 64 GND (power), 73 CCLK (io), 74 VCC (power), 75 O, TDO (0) (hiz), 76 GND (power)

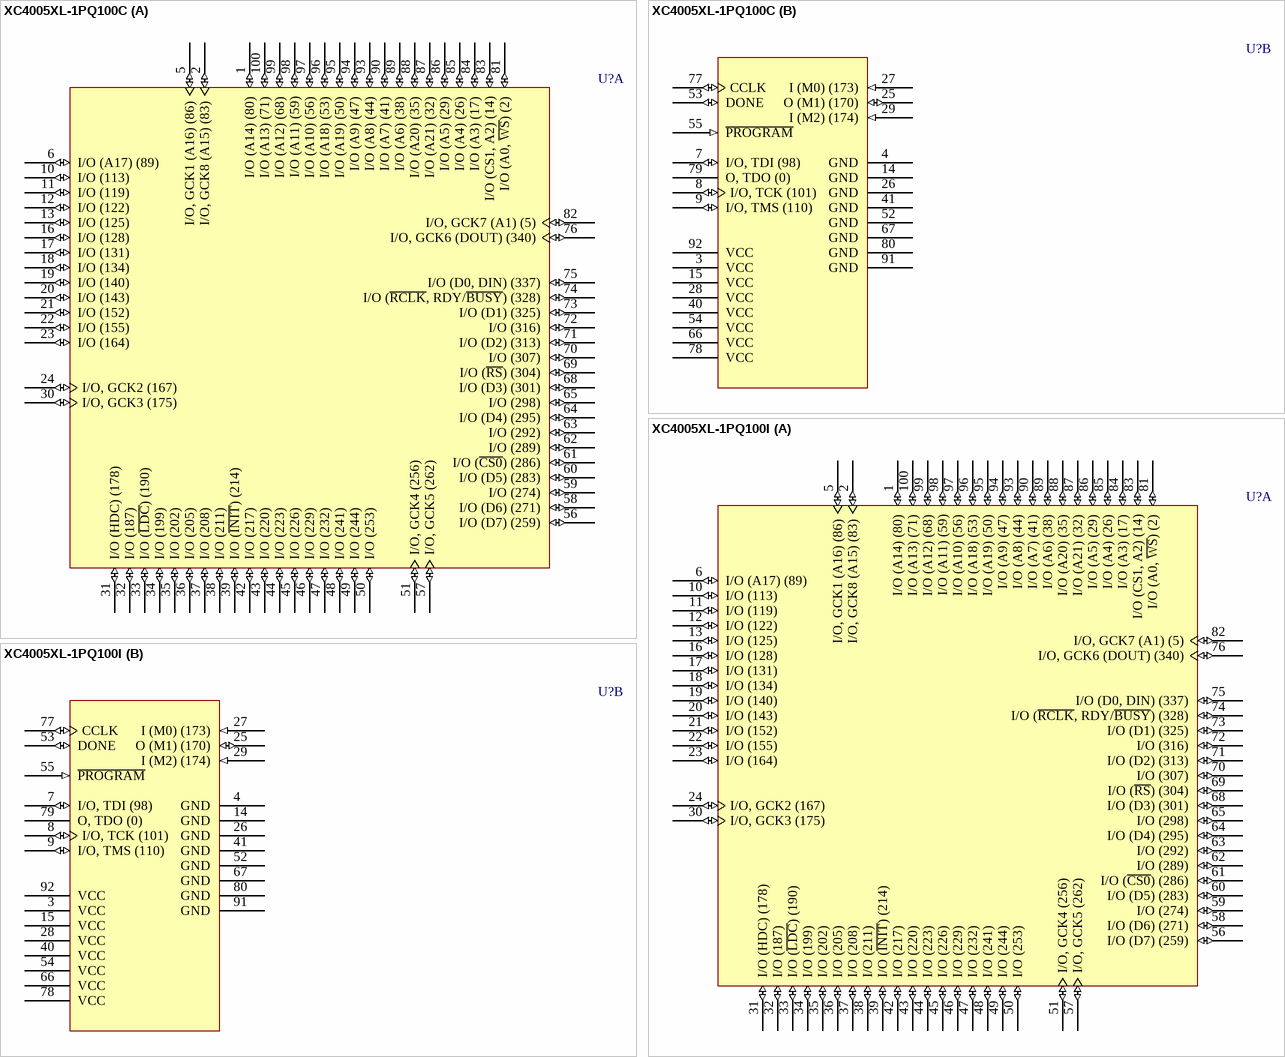
[diagram p8: symbols XC4005XL-1PQ100C to XC4005XL-1PQ100I]

## XC4005XL-1PQ100C
designator U?
XC4000XL FPGA, 77 I/Os, 100-Pin PQFP, Speed Grade 1, Commercial Grade; Published: 28-Feb-2003; LatestRevisionDate: 13-Apr-2006; LatestRevisionNote: IPC-7351 Footprint Added.; DatasheetVersion: ver1.6, May-1999; PackageVersion: ver1.2, Oct-2002; PackageReference: PQ100; Publisher: Altium Limited; PackageDescription: 100-Pin Plastic Quad Flat Pack (PQ100); Supplier 1: Digi-Key; Supplier Part Number 1: XC4005XL-1PQ100C-ND; Code_IPC: QFP65P1720X2320-100; ComponentLink1Description: XC4000XL Datasheet; ComponentLink1URL: http://www.xilinx.com/support/documentation/data_sheets/4000.pdf; ComponentLink2Description: Discontinuation Notice; ComponentLink2URL: http://www.xilinx.com/support/documentation/customer_notices/pdn2004-21.pdf; ComponentLink3Description: PQ100 Package Drawing; ComponentLink3URL: http://www.xilinx.com/support/documentation/package_specs/pq100.pdf; ComponentLink4Description: XC4000 Documents; ComponentLink4URL: http://www.xilinx.com/support/documentation/xc4000.htm; ComponentLink5Description: Xilinx.com Home; ComponentLink5URL: http://www.xilinx.com
footprint PQ100_N (QFP, 100-Leads, Body 20x14mm, Pitch 0.65mm, IPC Medium Density)
footprint PQ100_L (QFP, 100-Leads, Body 20x14mm, Pitch 0.65mm, IPC High Density)
footprint PQ100_M (QFP, 100-Leads, Body 20x14mm, Pitch 0.65mm, IPC Low Density)
part A pins: 1 I/O (A14) (80) (io), 2 I/O, GCK8 (A15) (83) (io), 5 I/O, GCK1 (A16) (86) (io), 6 I/O (A17) (89) (io), 10 I/O (113) (io), 11 I/O (119) (io), 12 I/O (122) (io), 13 I/O (125) (io), 16 I/O (128) (io), 17 I/O (131) (io), 18 I/O (134) (io), 19 I/O (140) (io), 20 I/O (143) (io), 21 I/O (152) (io), 22 I/O (155) (io), 23 I/O (164) (io), 24 I/O, GCK2 (167) (io), 30 I/O, GCK3 (175) (io), 31 I/O (HDC) (178) (io), 32 I/O (187) (io), 33 I/O (~{LDC}) (190) (io), 34 I/O (199) (io), 35 I/O (202) (io), 36 I/O (205) (io), 37 I/O (208) (io), 38 I/O (211) (io), 39 I/O (~{INIT}) (214) (io), 42 I/O (217) (io), 43 I/O (220) (io), 44 I/O (223) (io), 45 I/O (226) (io), 46 I/O (229) (io), 47 I/O (232) (io), 48 I/O (241) (io), 49 I/O (244) (io), 50 I/O (253) (io), 51 I/O, GCK4 (256) (io), 56 I/O (D7) (259) (io), 57 I/O, GCK5 (262) (io), 58 I/O (D6) (271) (io), 59 I/O (274) (io), 60 I/O (D5) (283) (io), 61 I/O (~{CS0}) (286) (io), 62 I/O (289) (io), 63 I/O (292) (io), 64 I/O (D4) (295) (io), 65 I/O (298) (io), 68 I/O (D3) (301) (io), 69 I/O (~{RS}) (304) (io), 70 I/O (307) (io), 71 I/O (D2) (313) (io), 72 I/O (316) (io), 73 I/O (D1) (325) (io), 74 I/O (~{RCLK}, RDY/~{BUSY}) (328) (io), 75 I/O (D0, DIN) (337) (io), 76 I/O, GCK6 (DOUT) (340) (io), 81 I/O (A0, ~{WS}) (2) (io), 82 I/O, GCK7 (A1) (5) (io), 83 I/O (CS1, A2) (14) (io), 84 I/O (A3) (17) (io), 85 I/O (A4) (26) (io), 86 I/O (A5) (29) (io), 87 I/O (A21) (32) (io), 88 I/O (A20) (35) (io), 89 I/O (A6) (38) (io), 90 I/O (A7) (41) (io), 93 I/O (A8) (44) (io), 94 I/O (A9) (47) (io), 95 I/O (A19) (50) (io), 96 I/O (A18) (53) (io), 97 I/O (A10) (56) (io), 98 I/O (A11) (59) (io), 99 I/O (A12) (68) (io), 100 I/O (A13) (71) (io)
part B pins: 3 VCC (power), 4 GND (power), 7 I/O, TDI (98) (io), 8 I/O, TCK (101) (io), 9 I/O, TMS (110) (io), 14 GND (power), 15 VCC (power), 25 O (M1) (170) (io), 26 GND (power), 27 I (M0) (173) (in), 28 VCC (power), 29 I (M2) (174) (in), 40 VCC (power), 41 GND (power), 52 GND (power), 53 DONE (io), 54 VCC (power), 55 ~{PROGRAM} (in), 66 VCC (power), 67 GND (power), 77 CCLK (io), 78 VCC (power), 79 O, TDO (0) (hiz), 80 GND (power), 91 GND (power), 92 VCC (power)

## XC4005XL-1PQ100I
designator U?
XC4000XL FPGA, 77 I/Os, 100-Pin PQFP, Speed Grade 1, Industrial Grade; Published: 28-Feb-2003; LatestRevisionDate: 13-Apr-2006; LatestRevisionNote: IPC-7351 Footprint Added.; DatasheetVersion: ver1.6, May-1999; PackageVersion: ver1.2, Oct-2002; PackageReference: PQ100; Publisher: Altium Limited; PackageDescription: 100-Pin Plastic Quad Flat Pack (PQ100); Supplier 1: Digi-Key; Supplier Part Number 1: XC4005XL-1PQ100I-ND; Code_IPC: QFP65P1720X2320-100; ComponentLink1Description: XC4000XL Datasheet; ComponentLink1URL: http://www.xilinx.com/support/documentation/data_sheets/4000.pdf; ComponentLink2Description: Discontinuation Notice; ComponentLink2URL: http://www.xilinx.com/support/documentation/customer_notices/pdn2004-21.pdf; ComponentLink3Description: PQ100 Package Drawing; ComponentLink3URL: http://www.xilinx.com/support/documentation/package_specs/pq100.pdf; ComponentLink4Description: XC4000 Documents; ComponentLink4URL: http://www.xilinx.com/support/documentation/xc4000.htm; ComponentLink5Description: Xilinx.com Home; ComponentLink5URL: http://www.xilinx.com
footprint PQ100_N (QFP, 100-Leads, Body 20x14mm, Pitch 0.65mm, IPC Medium Density)
footprint PQ100_L (QFP, 100-Leads, Body 20x14mm, Pitch 0.65mm, IPC High Density)
footprint PQ100_M (QFP, 100-Leads, Body 20x14mm, Pitch 0.65mm, IPC Low Density)
part A pins: 1 I/O (A14) (80) (io), 2 I/O, GCK8 (A15) (83) (io), 5 I/O, GCK1 (A16) (86) (io), 6 I/O (A17) (89) (io), 10 I/O (113) (io), 11 I/O (119) (io), 12 I/O (122) (io), 13 I/O (125) (io), 16 I/O (128) (io), 17 I/O (131) (io), 18 I/O (134) (io), 19 I/O (140) (io), 20 I/O (143) (io), 21 I/O (152) (io), 22 I/O (155) (io), 23 I/O (164) (io), 24 I/O, GCK2 (167) (io), 30 I/O, GCK3 (175) (io), 31 I/O (HDC) (178) (io), 32 I/O (187) (io), 33 I/O (~{LDC}) (190) (io), 34 I/O (199) (io), 35 I/O (202) (io), 36 I/O (205) (io), 37 I/O (208) (io), 38 I/O (211) (io), 39 I/O (~{INIT}) (214) (io), 42 I/O (217) (io), 43 I/O (220) (io), 44 I/O (223) (io), 45 I/O (226) (io), 46 I/O (229) (io), 47 I/O (232) (io), 48 I/O (241) (io), 49 I/O (244) (io), 50 I/O (253) (io), 51 I/O, GCK4 (256) (io), 56 I/O (D7) (259) (io), 57 I/O, GCK5 (262) (io), 58 I/O (D6) (271) (io), 59 I/O (274) (io), 60 I/O (D5) (283) (io), 61 I/O (~{CS0}) (286) (io), 62 I/O (289) (io), 63 I/O (292) (io), 64 I/O (D4) (295) (io), 65 I/O (298) (io), 68 I/O (D3) (301) (io), 69 I/O (~{RS}) (304) (io), 70 I/O (307) (io), 71 I/O (D2) (313) (io), 72 I/O (316) (io), 73 I/O (D1) (325) (io), 74 I/O (~{RCLK}, RDY/~{BUSY}) (328) (io), 75 I/O (D0, DIN) (337) (io), 76 I/O, GCK6 (DOUT) (340) (io), 81 I/O (A0, ~{WS}) (2) (io), 82 I/O, GCK7 (A1) (5) (io), 83 I/O (CS1, A2) (14) (io), 84 I/O (A3) (17) (io), 85 I/O (A4) (26) (io), 86 I/O (A5) (29) (io), 87 I/O (A21) (32) (io), 88 I/O (A20) (35) (io), 89 I/O (A6) (38) (io), 90 I/O (A7) (41) (io), 93 I/O (A8) (44) (io), 94 I/O (A9) (47) (io), 95 I/O (A19) (50) (io), 96 I/O (A18) (53) (io), 97 I/O (A10) (56) (io), 98 I/O (A11) (59) (io), 99 I/O (A12) (68) (io), 100 I/O (A13) (71) (io)
part B pins: 3 VCC (power), 4 GND (power), 7 I/O, TDI (98) (io), 8 I/O, TCK (101) (io), 9 I/O, TMS (110) (io), 14 GND (power), 15 VCC (power), 25 O (M1) (170) (io), 26 GND (power), 27 I (M0) (173) (in), 28 VCC (power), 29 I (M2) (174) (in), 40 VCC (power), 41 GND (power), 52 GND (power), 53 DONE (io), 54 VCC (power), 55 ~{PROGRAM} (in), 66 VCC (power), 67 GND (power), 77 CCLK (io), 78 VCC (power), 79 O, TDO (0) (hiz), 80 GND (power), 91 GND (power), 92 VCC (power)

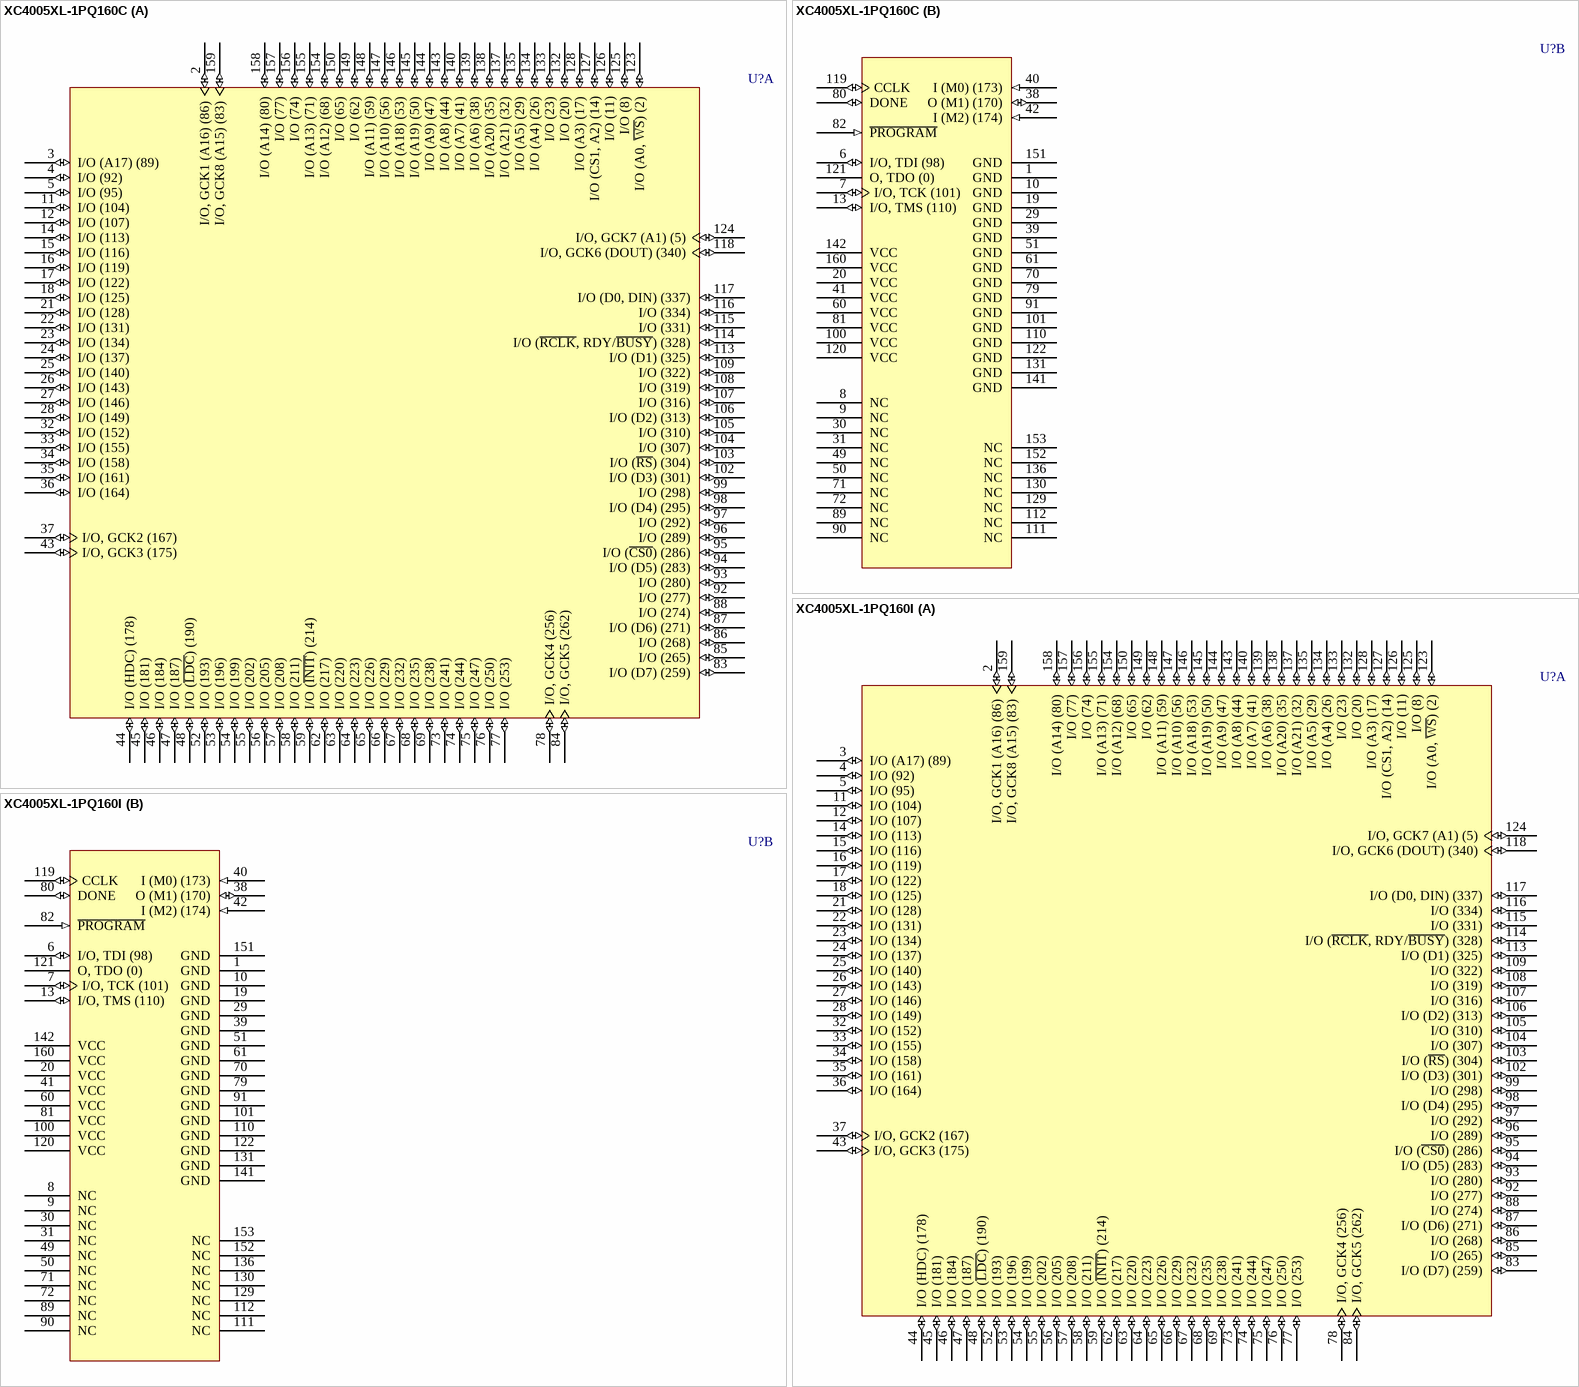
[diagram p9: symbols XC4005XL-1PQ160C to XC4005XL-1PQ160I]

## XC4005XL-1PQ160C
designator U?
XC4000XL FPGA, 112 I/Os, 160-Pin PQFP, Speed Grade 1, Commercial Grade; Published: 28-Feb-2003; LatestRevisionDate: 13-Apr-2006; LatestRevisionNote: IPC-7351 Footprint Added.; DatasheetVersion: ver1.6, May-1999; PackageVersion: ver1.2, Jun-2004; PackageReference: PQ160; Publisher: Altium Limited; PackageDescription: 160-Pin Plastic Quad Flat Pack (PQ160); Supplier 1: Digi-Key; Supplier Part Number 1: XC4005XL-1PQ160C-ND; Code_JEDEC: MS-022-DD1; Code_IPC: QFP65P3120X3120-160; ComponentLink1Description: XC4000XL Datasheet; ComponentLink1URL: http://www.xilinx.com/support/documentation/data_sheets/4000.pdf; ComponentLink2Description: PQ160 Package Drawing; ComponentLink2URL: http://www.xilinx.com/support/documentation/package_specs/pq160.pdf; ComponentLink3Description: XC4000 Documents; ComponentLink3URL: http://www.xilinx.com/support/documentation/xc4000.htm; ComponentLink4Description: Xilinx.com Home; ComponentLink4URL: http://www.xilinx.com
footprint PQ160_N (QFP, 160-Leads, Body 28x28mm, Pitch 0.65mm, IPC Medium Density)
footprint PQ160_L (QFP, 160-Leads, Body 28x28mm, Pitch 0.65mm, IPC High Density)
footprint PQ160_M (QFP, 160-Leads, Body 28x28mm, Pitch 0.65mm, IPC Low Density)
part A pins: 2 I/O, GCK1 (A16) (86) (io), 3 I/O (A17) (89) (io), 4 I/O (92) (io), 5 I/O (95) (io), 11 I/O (104) (io), 12 I/O (107) (io), 14 I/O (113) (io), 15 I/O (116) (io), 16 I/O (119) (io), 17 I/O (122) (io), 18 I/O (125) (io), 21 I/O (128) (io), 22 I/O (131) (io), 23 I/O (134) (io), 24 I/O (137) (io), 25 I/O (140) (io), 26 I/O (143) (io), 27 I/O (146) (io), 28 I/O (149) (io), 32 I/O (152) (io), 33 I/O (155) (io), 34 I/O (158) (io), 35 I/O (161) (io), 36 I/O (164) (io), 37 I/O, GCK2 (167) (io), 43 I/O, GCK3 (175) (io), 44 I/O (HDC) (178) (io), 45 I/O (181) (io), 46 I/O (184) (io), 47 I/O (187) (io), 48 I/O (~{LDC}) (190) (io), 52 I/O (193) (io), 53 I/O (196) (io), 54 I/O (199) (io), 55 I/O (202) (io), 56 I/O (205) (io), 57 I/O (208) (io), 58 I/O (211) (io), 59 I/O (~{INIT}) (214) (io), 62 I/O (217) (io), 63 I/O (220) (io), 64 I/O (223) (io), 65 I/O (226) (io), 66 I/O (229) (io), 67 I/O (232) (io), 68 I/O (235) (io), 69 I/O (238) (io), 73 I/O (241) (io), 74 I/O (244) (io), 75 I/O (247) (io), 76 I/O (250) (io), 77 I/O (253) (io), 78 I/O, GCK4 (256) (io), 83 I/O (D7) (259) (io), 84 I/O, GCK5 (262) (io), 85 I/O (265) (io), 86 I/O (268) (io), 87 I/O (D6) (271) (io), 88 I/O (274) (io), 92 I/O (277) (io), 93 I/O (280) (io), 94 I/O (D5) (283) (io), 95 I/O (~{CS0}) (286) (io), 96 I/O (289) (io), 97 I/O (292) (io), 98 I/O (D4) (295) (io), 99 I/O (298) (io), 102 I/O (D3) (301) (io), 103 I/O (~{RS}) (304) (io), 104 I/O (307) (io), 105 I/O (310) (io), 106 I/O (D2) (313) (io), 107 I/O (316) (io), 108 I/O (319) (io), 109 I/O (322) (io), 113 I/O (D1) (325) (io), 114 I/O (~{RCLK}, RDY/~{BUSY}) (328) (io), 115 I/O (331) (io), 116 I/O (334) (io), 117 I/O (D0, DIN) (337) (io), 118 I/O, GCK6 (DOUT) (340) (io), 123 I/O (A0, ~{WS}) (2) (io), 124 I/O, GCK7 (A1) (5) (io), 125 I/O (8) (io), 126 I/O (11) (io), 127 I/O (CS1, A2) (14) (io), 128 I/O (A3) (17) (io), 132 I/O (20) (io), 133 I/O (23) (io), 134 I/O (A4) (26) (io), 135 I/O (A5) (29) (io), 137 I/O (A21) (32) (io), 138 I/O (A20) (35) (io), 139 I/O (A6) (38) (io), 140 I/O (A7) (41) (io), 143 I/O (A8) (44) (io), 144 I/O (A9) (47) (io), 145 I/O (A19) (50) (io), 146 I/O (A18) (53) (io), 147 I/O (A10) (56) (io), 148 I/O (A11) (59) (io), 149 I/O (62) (io), 150 I/O (65) (io), 154 I/O (A12) (68) (io), 155 I/O (A13) (71) (io), 156 I/O (74) (io), 157 I/O (77) (io), 158 I/O (A14) (80) (io), 159 I/O, GCK8 (A15) (83) (io)
part B pins: 1 GND (power), 6 I/O, TDI (98) (io), 7 I/O, TCK (101) (io), 8 NC, 9 NC, 10 GND (power), 13 I/O, TMS (110) (io), 19 GND (power), 20 VCC (power), 29 GND (power), 30 NC, 31 NC, 38 O (M1) (170) (io), 39 GND (power), 40 I (M0) (173) (in), 41 VCC (power), 42 I (M2) (174) (in), 49 NC, 50 NC, 51 GND (power), 60 VCC (power), 61 GND (power), 70 GND (power), 71 NC, 72 NC, 79 GND (power), 80 DONE (io), 81 VCC (power), 82 ~{PROGRAM} (in), 89 NC, 90 NC, 91 GND (power), 100 VCC (power), 101 GND (power), 110 GND (power), 111 NC, 112 NC, 119 CCLK (io), 120 VCC (power), 121 O, TDO (0) (hiz), 122 GND (power), 129 NC, 130 NC, 131 GND (power), 136 NC, 141 GND (power), 142 VCC (power), 151 GND (power), 152 NC, 153 NC, 160 VCC (power)

## XC4005XL-1PQ160I
designator U?
XC4000XL FPGA, 112 I/Os, 160-Pin PQFP, Speed Grade 1, Industrial Grade; Published: 28-Feb-2003; LatestRevisionDate: 13-Apr-2006; LatestRevisionNote: IPC-7351 Footprint Added.; DatasheetVersion: ver1.6, May-1999; PackageVersion: ver1.2, Jun-2004; PackageReference: PQ160; Publisher: Altium Limited; PackageDescription: 160-Pin Plastic Quad Flat Pack (PQ160); Supplier 1: Digi-Key; Supplier Part Number 1: XC4005XL-1PQ160I-ND; Code_JEDEC: MS-022-DD1; Code_IPC: QFP65P3120X3120-160; ComponentLink1Description: XC4000XL Datasheet; ComponentLink1URL: http://www.xilinx.com/support/documentation/data_sheets/4000.pdf; ComponentLink2Description: PQ160 Package Drawing; ComponentLink2URL: http://www.xilinx.com/support/documentation/package_specs/pq160.pdf; ComponentLink3Description: XC4000 Documents; ComponentLink3URL: http://www.xilinx.com/support/documentation/xc4000.htm; ComponentLink4Description: Xilinx.com Home; ComponentLink4URL: http://www.xilinx.com
footprint PQ160_N (QFP, 160-Leads, Body 28x28mm, Pitch 0.65mm, IPC Medium Density)
footprint PQ160_L (QFP, 160-Leads, Body 28x28mm, Pitch 0.65mm, IPC High Density)
footprint PQ160_M (QFP, 160-Leads, Body 28x28mm, Pitch 0.65mm, IPC Low Density)
part A pins: 2 I/O, GCK1 (A16) (86) (io), 3 I/O (A17) (89) (io), 4 I/O (92) (io), 5 I/O (95) (io), 11 I/O (104) (io), 12 I/O (107) (io), 14 I/O (113) (io), 15 I/O (116) (io), 16 I/O (119) (io), 17 I/O (122) (io), 18 I/O (125) (io), 21 I/O (128) (io), 22 I/O (131) (io), 23 I/O (134) (io), 24 I/O (137) (io), 25 I/O (140) (io), 26 I/O (143) (io), 27 I/O (146) (io), 28 I/O (149) (io), 32 I/O (152) (io), 33 I/O (155) (io), 34 I/O (158) (io), 35 I/O (161) (io), 36 I/O (164) (io), 37 I/O, GCK2 (167) (io), 43 I/O, GCK3 (175) (io), 44 I/O (HDC) (178) (io), 45 I/O (181) (io), 46 I/O (184) (io), 47 I/O (187) (io), 48 I/O (~{LDC}) (190) (io), 52 I/O (193) (io), 53 I/O (196) (io), 54 I/O (199) (io), 55 I/O (202) (io), 56 I/O (205) (io), 57 I/O (208) (io), 58 I/O (211) (io), 59 I/O (~{INIT}) (214) (io), 62 I/O (217) (io), 63 I/O (220) (io), 64 I/O (223) (io), 65 I/O (226) (io), 66 I/O (229) (io), 67 I/O (232) (io), 68 I/O (235) (io), 69 I/O (238) (io), 73 I/O (241) (io), 74 I/O (244) (io), 75 I/O (247) (io), 76 I/O (250) (io), 77 I/O (253) (io), 78 I/O, GCK4 (256) (io), 83 I/O (D7) (259) (io), 84 I/O, GCK5 (262) (io), 85 I/O (265) (io), 86 I/O (268) (io), 87 I/O (D6) (271) (io), 88 I/O (274) (io), 92 I/O (277) (io), 93 I/O (280) (io), 94 I/O (D5) (283) (io), 95 I/O (~{CS0}) (286) (io), 96 I/O (289) (io), 97 I/O (292) (io), 98 I/O (D4) (295) (io), 99 I/O (298) (io), 102 I/O (D3) (301) (io), 103 I/O (~{RS}) (304) (io), 104 I/O (307) (io), 105 I/O (310) (io), 106 I/O (D2) (313) (io), 107 I/O (316) (io), 108 I/O (319) (io), 109 I/O (322) (io), 113 I/O (D1) (325) (io), 114 I/O (~{RCLK}, RDY/~{BUSY}) (328) (io), 115 I/O (331) (io), 116 I/O (334) (io), 117 I/O (D0, DIN) (337) (io), 118 I/O, GCK6 (DOUT) (340) (io), 123 I/O (A0, ~{WS}) (2) (io), 124 I/O, GCK7 (A1) (5) (io), 125 I/O (8) (io), 126 I/O (11) (io), 127 I/O (CS1, A2) (14) (io), 128 I/O (A3) (17) (io), 132 I/O (20) (io), 133 I/O (23) (io), 134 I/O (A4) (26) (io), 135 I/O (A5) (29) (io), 137 I/O (A21) (32) (io), 138 I/O (A20) (35) (io), 139 I/O (A6) (38) (io), 140 I/O (A7) (41) (io), 143 I/O (A8) (44) (io), 144 I/O (A9) (47) (io), 145 I/O (A19) (50) (io), 146 I/O (A18) (53) (io), 147 I/O (A10) (56) (io), 148 I/O (A11) (59) (io), 149 I/O (62) (io), 150 I/O (65) (io), 154 I/O (A12) (68) (io), 155 I/O (A13) (71) (io), 156 I/O (74) (io), 157 I/O (77) (io), 158 I/O (A14) (80) (io), 159 I/O, GCK8 (A15) (83) (io)
part B pins: 1 GND (power), 6 I/O, TDI (98) (io), 7 I/O, TCK (101) (io), 8 NC, 9 NC, 10 GND (power), 13 I/O, TMS (110) (io), 19 GND (power), 20 VCC (power), 29 GND (power), 30 NC, 31 NC, 38 O (M1) (170) (io), 39 GND (power), 40 I (M0) (173) (in), 41 VCC (power), 42 I (M2) (174) (in), 49 NC, 50 NC, 51 GND (power), 60 VCC (power), 61 GND (power), 70 GND (power), 71 NC, 72 NC, 79 GND (power), 80 DONE (io), 81 VCC (power), 82 ~{PROGRAM} (in), 89 NC, 90 NC, 91 GND (power), 100 VCC (power), 101 GND (power), 110 GND (power), 111 NC, 112 NC, 119 CCLK (io), 120 VCC (power), 121 O, TDO (0) (hiz), 122 GND (power), 129 NC, 130 NC, 131 GND (power), 136 NC, 141 GND (power), 142 VCC (power), 151 GND (power), 152 NC, 153 NC, 160 VCC (power)

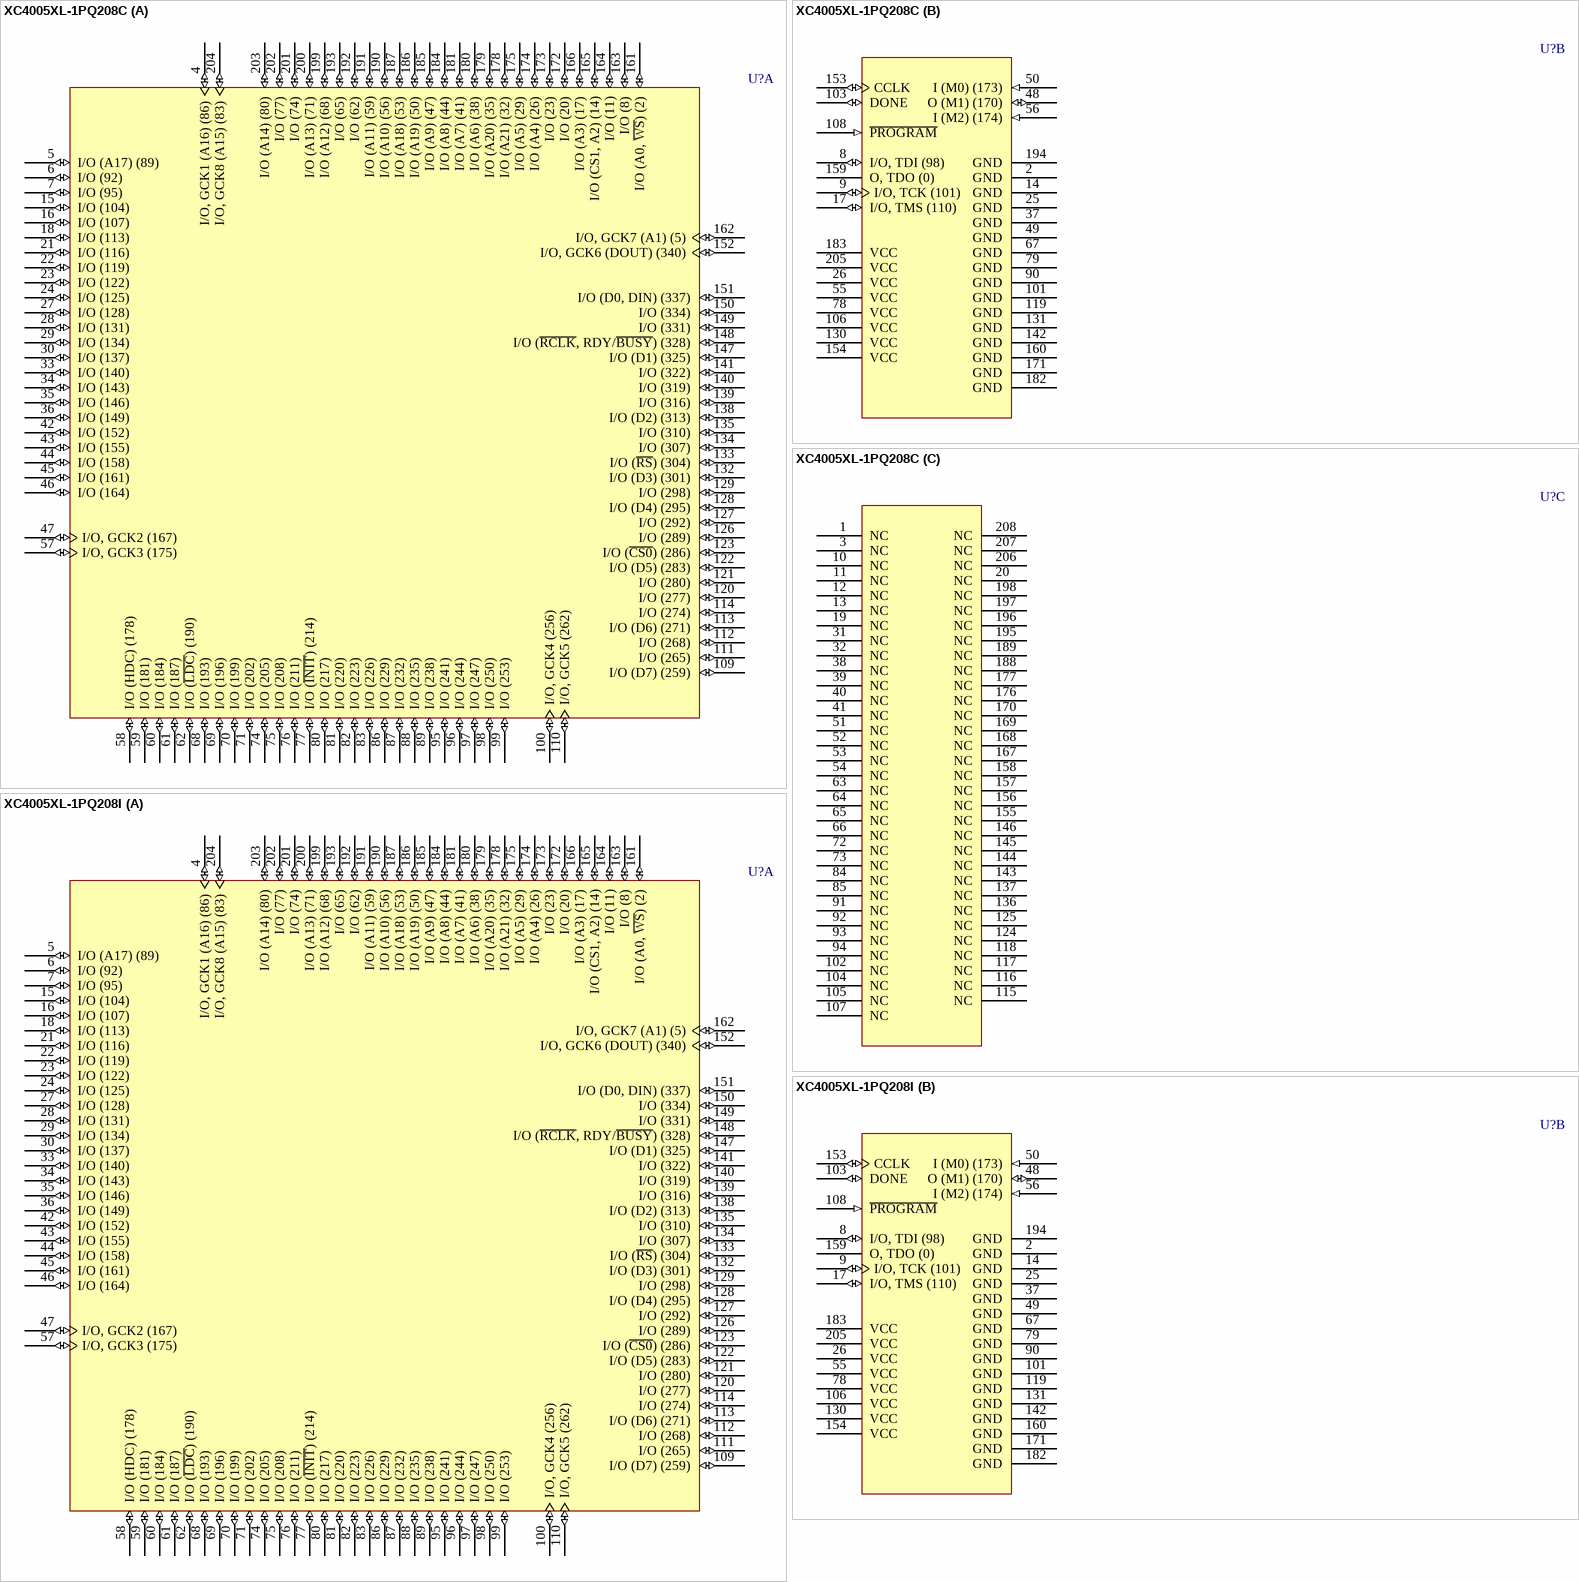
[diagram p10: symbols XC4005XL-1PQ208C to XC4005XL-1PQ208I]

## XC4005XL-1PQ208C
designator U?
XC4000XL FPGA, 112 I/Os, 208-Pin PQFP, Speed Grade 1, Commercial Grade; Published: 28-Feb-2003; LatestRevisionDate: 13-Apr-2006; LatestRevisionNote: IPC-7351 Footprint Added.; DatasheetVersion: ver1.6, May-1999; PackageVersion: ver1.2, Jun-2004; PackageReference: PQ208; Publisher: Altium Limited; PackageDescription: 208-Pin Plastic Quad Flat Pack (PQ208); Supplier 1: Digi-Key; Supplier Part Number 1: XC4005XL-1PQ208C-ND; Code_JEDEC: MS-029-FA-1; ComponentLink1Description: XC4000XL Datasheet; ComponentLink1URL: http://www.xilinx.com/support/documentation/data_sheets/4000.pdf; ComponentLink2Description: PQ208 Package Drawing; ComponentLink2URL: http://www.xilinx.com/support/documentation/package_specs/pq208.pdf; ComponentLink3Description: XC4000 Documents; ComponentLink3URL: http://www.xilinx.com/support/documentation/xc4000.htm; ComponentLink4Description: Xilinx.com Home; ComponentLink4URL: http://www.xilinx.com
footprint PQ208_N (Shrink QFP, 208-Leads, Body 28x28mm, Pitch 0.5mm, IPC Medium Density)
footprint PQ208_L (Shrink QFP, 208-Leads, Body 28x28mm, Pitch 0.5mm, IPC High Density)
footprint PQ208_M (Shrink QFP, 208-Leads, Body 28x28mm, Pitch 0.5mm, IPC Low Density)
part A pins: 4 I/O, GCK1 (A16) (86) (io), 5 I/O (A17) (89) (io), 6 I/O (92) (io), 7 I/O (95) (io), 15 I/O (104) (io), 16 I/O (107) (io), 18 I/O (113) (io), 21 I/O (116) (io), 22 I/O (119) (io), 23 I/O (122) (io), 24 I/O (125) (io), 27 I/O (128) (io), 28 I/O (131) (io), 29 I/O (134) (io), 30 I/O (137) (io), 33 I/O (140) (io), 34 I/O (143) (io), 35 I/O (146) (io), 36 I/O (149) (io), 42 I/O (152) (io), 43 I/O (155) (io), 44 I/O (158) (io), 45 I/O (161) (io), 46 I/O (164) (io), 47 I/O, GCK2 (167) (io), 57 I/O, GCK3 (175) (io), 58 I/O (HDC) (178) (io), 59 I/O (181) (io), 60 I/O (184) (io), 61 I/O (187) (io), 62 I/O (~{LDC}) (190) (io), 68 I/O (193) (io), 69 I/O (196) (io), 70 I/O (199) (io), 71 I/O (202) (io), 74 I/O (205) (io), 75 I/O (208) (io), 76 I/O (211) (io), 77 I/O (~{INIT}) (214) (io), 80 I/O (217) (io), 81 I/O (220) (io), 82 I/O (223) (io), 83 I/O (226) (io), 86 I/O (229) (io), 87 I/O (232) (io), 88 I/O (235) (io), 89 I/O (238) (io), 95 I/O (241) (io), 96 I/O (244) (io), 97 I/O (247) (io), 98 I/O (250) (io), 99 I/O (253) (io), 100 I/O, GCK4 (256) (io), 109 I/O (D7) (259) (io), 110 I/O, GCK5 (262) (io), 111 I/O (265) (io), 112 I/O (268) (io), 113 I/O (D6) (271) (io), 114 I/O (274) (io), 120 I/O (277) (io), 121 I/O (280) (io), 122 I/O (D5) (283) (io), 123 I/O (~{CS0}) (286) (io), 126 I/O (289) (io), 127 I/O (292) (io), 128 I/O (D4) (295) (io), 129 I/O (298) (io), 132 I/O (D3) (301) (io), 133 I/O (~{RS}) (304) (io), 134 I/O (307) (io), 135 I/O (310) (io), 138 I/O (D2) (313) (io), 139 I/O (316) (io), 140 I/O (319) (io), 141 I/O (322) (io), 147 I/O (D1) (325) (io), 148 I/O (~{RCLK}, RDY/~{BUSY}) (328) (io), 149 I/O (331) (io), 150 I/O (334) (io), 151 I/O (D0, DIN) (337) (io), 152 I/O, GCK6 (DOUT) (340) (io), 161 I/O (A0, ~{WS}) (2) (io), 162 I/O, GCK7 (A1) (5) (io), 163 I/O (8) (io), 164 I/O (11) (io), 165 I/O (CS1, A2) (14) (io), 166 I/O (A3) (17) (io), 172 I/O (20) (io), 173 I/O (23) (io), 174 I/O (A4) (26) (io), 175 I/O (A5) (29) (io), 178 I/O (A21) (32) (io), 179 I/O (A20) (35) (io), 180 I/O (A6) (38) (io), 181 I/O (A7) (41) (io), 184 I/O (A8) (44) (io), 185 I/O (A9) (47) (io), 186 I/O (A19) (50) (io), 187 I/O (A18) (53) (io), 190 I/O (A10) (56) (io), 191 I/O (A11) (59) (io), 192 I/O (62) (io), 193 I/O (65) (io), 199 I/O (A12) (68) (io), 200 I/O (A13) (71) (io), 201 I/O (74) (io), 202 I/O (77) (io), 203 I/O (A14) (80) (io), 204 I/O, GCK8 (A15) (83) (io)
part B pins: 2 GND (power), 8 I/O, TDI (98) (io), 9 I/O, TCK (101) (io), 14 GND (power), 17 I/O, TMS (110) (io), 25 GND (power), 26 VCC (power), 37 GND (power), 48 O (M1) (170) (io), 49 GND (power), 50 I (M0) (173) (in), 55 VCC (power), 56 I (M2) (174) (in), 67 GND (power), 78 VCC (power), 79 GND (power), 90 GND (power), 101 GND (power), 103 DONE (io), 106 VCC (power), 108 ~{PROGRAM} (in), 119 GND (power), 130 VCC (power), 131 GND (power), 142 GND (power), 153 CCLK (io), 154 VCC (power), 159 O, TDO (0) (hiz), 160 GND (power), 171 GND (power), 182 GND (power), 183 VCC (power), 194 GND (power), 205 VCC (power)
part C pins: 1 NC, 3 NC, 10 NC, 11 NC, 12 NC, 13 NC, 19 NC, 20 NC, 31 NC, 32 NC, 38 NC, 39 NC, 40 NC, 41 NC, 51 NC, 52 NC, 53 NC, 54 NC, 63 NC, 64 NC, 65 NC, 66 NC, 72 NC, 73 NC, 84 NC, 85 NC, 91 NC, 92 NC, 93 NC, 94 NC, 102 NC, 104 NC, 105 NC, 107 NC, 115 NC, 116 NC, 117 NC, 118 NC, 124 NC, 125 NC, 136 NC, 137 NC, 143 NC, 144 NC, 145 NC, 146 NC, 155 NC, 156 NC, 157 NC, 158 NC, 167 NC, 168 NC, 169 NC, 170 NC, 176 NC, 177 NC, 188 NC, 189 NC, 195 NC, 196 NC, 197 NC, 198 NC, 206 NC, 207 NC, 208 NC

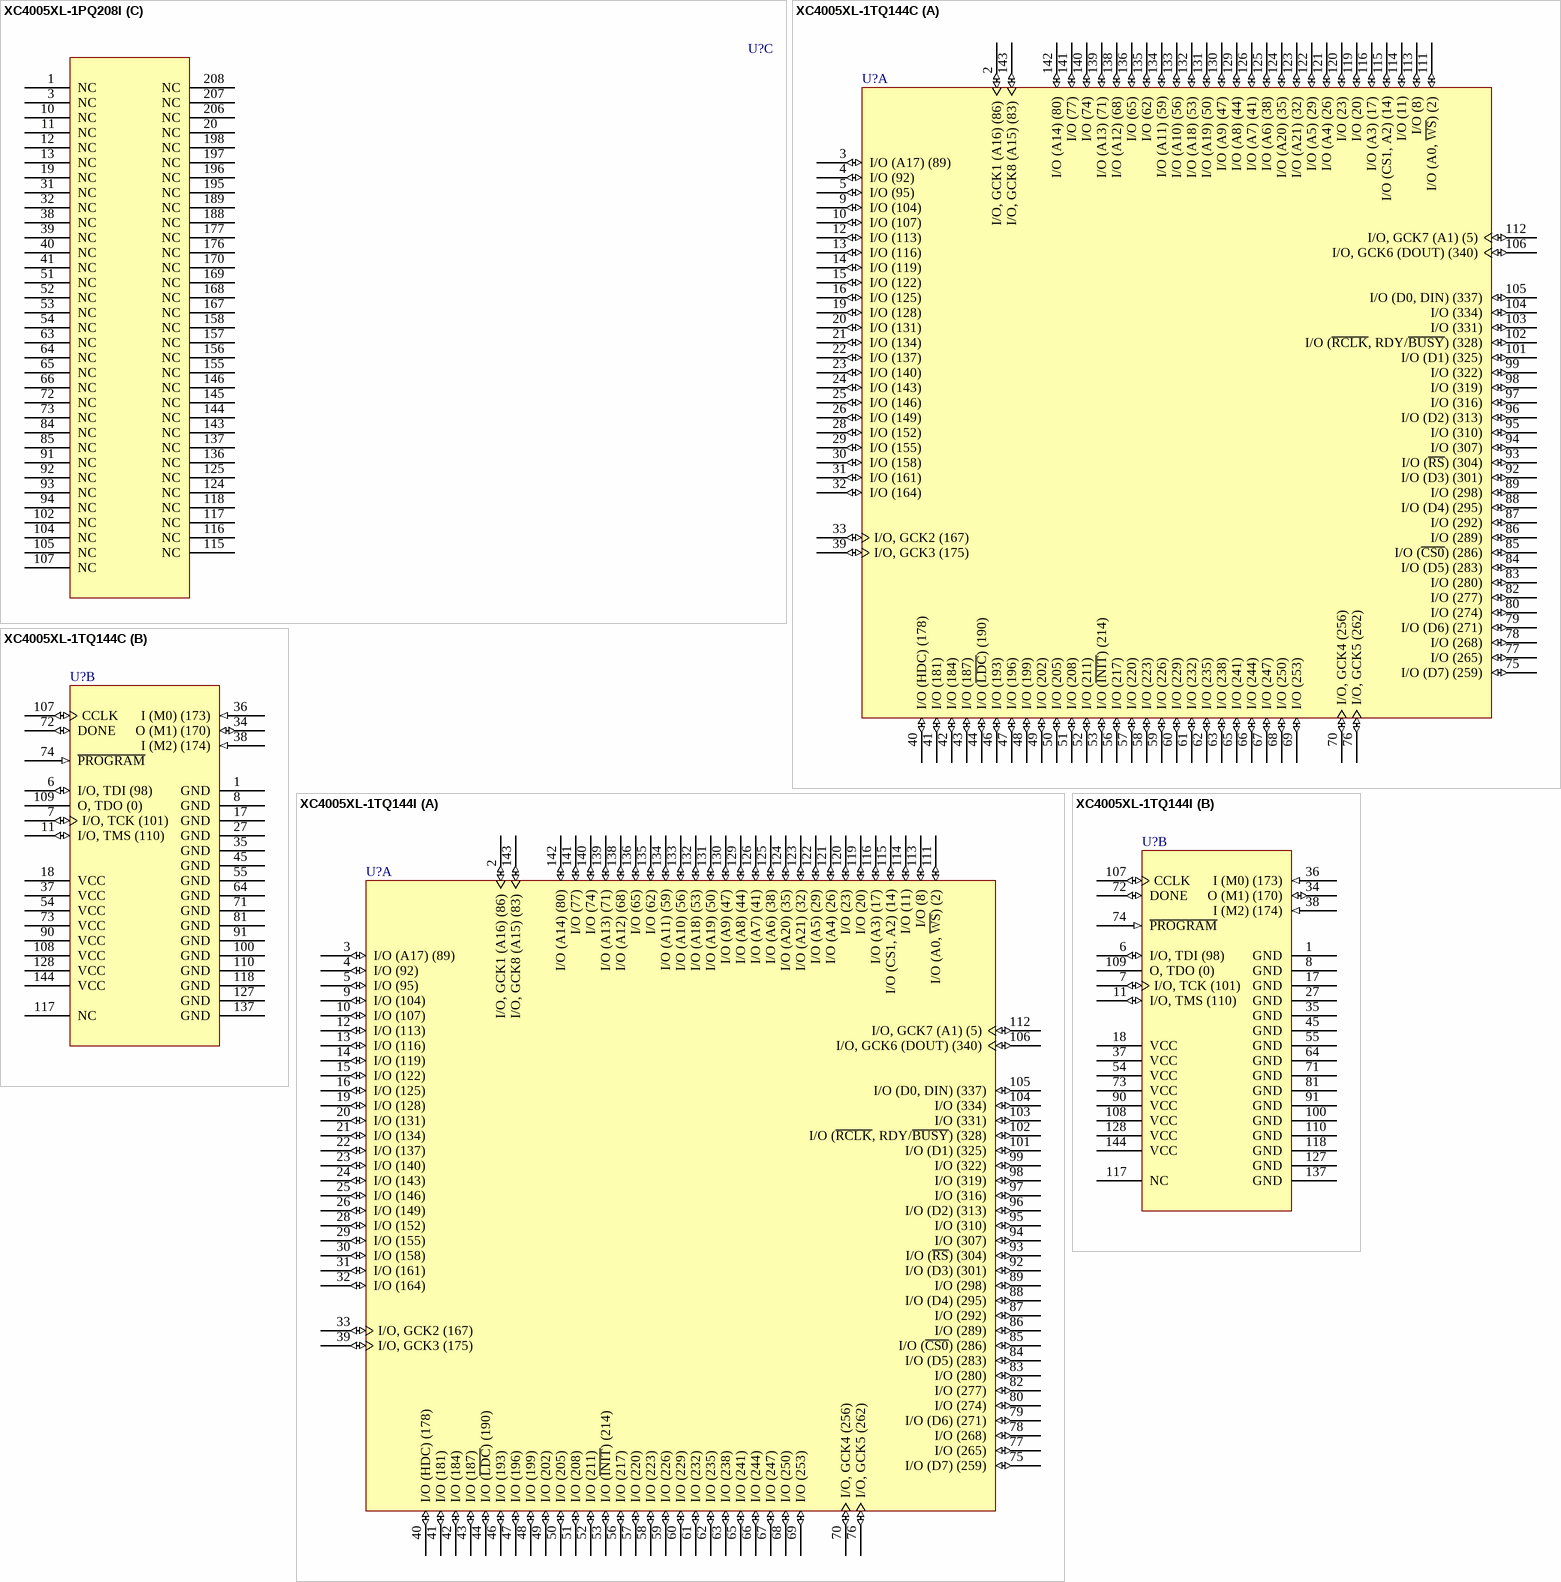
[diagram p11: symbols XC4005XL-1PQ208I to XC4005XL-1TQ144I]